# Altium schematic symbol library ICL_komponenty_v1.SchLib: 294 symbols (part 1 of 2)
Pins are listed as number, name and electrical type; pins without a type are passive.

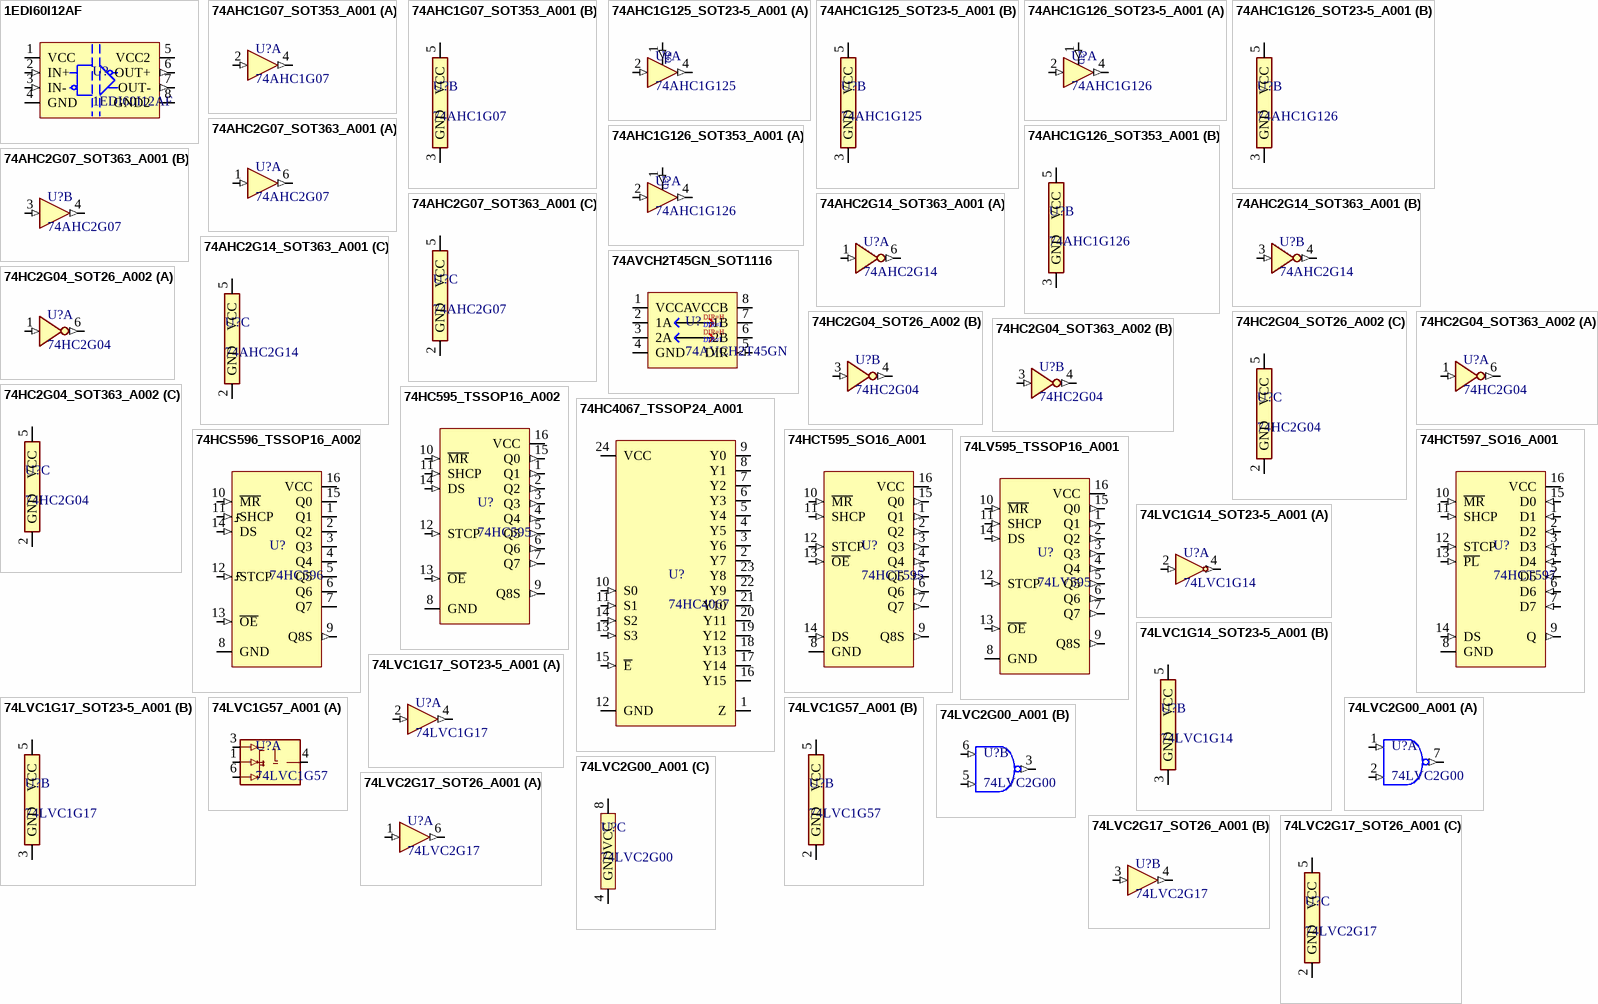
[diagram p0: symbols 1EDI60I12AF to 74LVC2G17_SOT26_A001]

## 1EDI60I12AF
designator U?
Isolated gate driver 6A; ICLN: IC_1EDI60I12AF_SO8_A001
footprint SO-8
pins: 1 VCC (power), 2 IN+ (in), 3 IN- (in), 4 GND (power), 5 VCC2 (power), 6 OUT+ (out), 7 OUT- (out), 8 GND2 (power)

## 74AHC1G07_SOT353_A001
designator U?, comment 74AHC1G07
buffer OC; ITSN: IC_74AHC1G126_SOT353_A001
footprint SOT353
part A pins: 2 A1 (in), 4 Y1 (out)
part B pins: 3 GND (power), 5 VCC (power)

## 74AHC1G125_SOT23-5_A001
designator U?, comment 74AHC1G125
buffer with enable; ICLN: IC_74AHC1G125_SOT23-5_A001
footprint SOT-23-5
part A pins: 1 OE (in), 2 A1 (in), 4 Y1 (out)
part B pins: 3 GND (power), 5 VCC (power)

## 74AHC1G126_SOT23-5_A001
designator U?, comment 74AHC1G126
buffer with enable; ICLN: IC_74AHC1G126_SOT23-5_A001
footprint SOT-23-5
part A pins: 1 OE (in), 2 A1 (in), 4 Y1 (out)
part B pins: 3 GND (power), 5 VCC (power)

## 74AHC1G126_SOT353_A001
designator U?, comment 74AHC1G126
buffer with enable; ITSN: IC_74AHC1G126_SOT353_A001
footprint SOT353
part A pins: 1 OE (in), 2 A1 (in), 4 Y1 (out)
part B pins: 3 GND (power), 5 VCC (power)

## 74AHC2G07_SOT363_A001
designator U?, comment 74AHC2G07
2x buffer OC; ITSN: IC_74AHC2G07_SOT363_A001
footprint SOT363
part A pins: 1 A1 (in), 6 Y1 (out)
part B pins: 3 A2 (in), 4 Y2 (out)
part C pins: 2 GND (power), 5 VCC (power)

## 74AHC2G14_SOT363_A001
designator U?, comment 74AHC2G14
2x inventer; ICLN: IC_74AHC2G14_SOT363_A001
footprint SOT363
part A pins: 1 A1 (in), 6 Y1 (out)
part B pins: 3 A2 (in), 4 Y2 (out)
part C pins: 2 GND (power), 5 VCC (power)

## 74AVCH2T45GN_SOT1116
designator U?, comment 74AVCH2T45GN
2 bit translator; ICLN: IC_74AVCH2T45GN_SOT1116_A001
footprint SOT-1116 (NXP SOT 1116)
pins: 1 VCCA (power), 2 1A (io), 3 2A (io), 4 GND (power), 5 DIR (in), 6 2B (io), 7 1B (io), 8 VCCB (power)
text: DIR=H; DIR=L

## 74HC2G04_SOT26_A002
designator U?, comment 74HC2G04
dual inverter; ICLN: IC_74HC2G04_SOT26_A002
footprint SOT23-6 (Zetex)
part A pins: 1 A1 (in), 6 Y1 (out)
part B pins: 3 A2 (in), 4 Y2 (out)
part C pins: 2 GND (power), 5 VCC (power)

## 74HC2G04_SOT363_A002
designator U?, comment 74HC2G04
dual inverter; ICLN: IC_74HC2G04_SOT26_A002
footprint SOT363
part A pins: 1 A1 (in), 6 Y1 (out)
part B pins: 3 A2 (in), 4 Y2 (out)
part C pins: 2 GND (power), 5 VCC (power)

## 74HC595_TSSOP16_A002
designator U?, comment 74HC595
8-b serial to parallel shift register; ICLN: IC_74HC595_TSSOP16_A002
footprint TSSOP-16
pins: 1 Q1 (out), 2 Q2 (out), 3 Q3 (out), 4 Q4 (out), 5 Q5 (out), 6 Q6 (out), 7 Q7 (out), 8 GND (power), 9 Q8S (out), 10 ~{MR} (in), 11 SHCP (in), 12 STCP (in), 13 ~{OE} (in), 14 DS (in), 15 Q0 (out), 16 VCC (power)

## 74HC4067_TSSOP24_A001
designator U?, comment 74HC4067
1:16 analog multiplekser; ICLN: IC_74HC4067_TSSOP24_A001
footprint TSSOP-24
pins: 1 Z, 2 Y7, 3 Y6, 4 Y5, 5 Y4, 6 Y3, 7 Y2, 8 Y1, 9 Y0, 10 S0 (in), 11 S1 (in), 12 GND (power), 13 S3 (in), 14 S2 (in), 15 ~{E} (in), 16 Y15, 17 Y14, 18 Y13, 19 Y12, 20 Y11, 21 Y10, 22 Y9, 23 Y8, 24 VCC (power)

## 74HCS596_TSSOP16_A002
designator U?, comment 74HC596
8-b serial to parallel shift register with open drain output; ICLN: IC_74HCS596_TSSOP16_A002
footprint TSSOP-16
pins: 1 Q1 (oc), 2 Q2 (oc), 3 Q3 (oc), 4 Q4 (oc), 5 Q5 (oc), 6 Q6 (oc), 7 Q7 (oc), 8 GND (power), 9 Q8S (out), 10 ~{MR} (in), 11 SHCP (in), 12 STCP (in), 13 ~{OE} (in), 14 DS (in), 15 Q0 (oc), 16 VCC (power)

## 74HCT595_SO16_A001
designator U?, comment 74HCT595
8-b serial to parallel shift register; ITSN: IC_74HCT595_SO16_A001
footprint SO-16 (SOIC, 16-Leads, Body 10,0x4,0mm (max), Pitch 1,27mm, IPC Low Density)
pins: 1 Q1 (out), 2 Q2 (out), 3 Q3 (out), 4 Q4 (out), 5 Q5 (out), 6 Q6 (out), 7 Q7 (out), 8 GND (power), 9 Q8S (out), 10 ~{MR} (in), 11 SHCP (in), 12 STCP (in), 13 ~{OE} (in), 14 DS (in), 15 Q0 (out), 16 VCC (power)

## 74HCT597_SO16_A001
designator U?, comment 74HCT597
8-b parallel  to serial shift register; ITSN: IC_74HCT597_SO16_A001
footprint SO-16 (SOIC, 16-Leads, Body 10,0x4,0mm (max), Pitch 1,27mm, IPC Low Density)
pins: 1 D1 (in), 2 D2 (in), 3 D3 (in), 4 D4 (in), 5 D5 (in), 6 D6 (in), 7 D7 (in), 8 GND (power), 9 Q (out), 10 ~{MR} (in), 11 SHCP (in), 12 STCP (in), 13 ~{PL} (in), 14 DS (in), 15 D0 (in), 16 VCC (power)

## 74LV595_TSSOP16_A001
designator U?, comment 74LV595
8-b serial to parallel shift register; ICLN: IC_74LV595_TSSOP16_A001
footprint TSSOP-16
pins: 1 Q1 (out), 2 Q2 (out), 3 Q3 (out), 4 Q4 (out), 5 Q5 (out), 6 Q6 (out), 7 Q7 (out), 8 GND (power), 9 Q8S (out), 10 ~{MR} (in), 11 SHCP (in), 12 STCP (in), 13 ~{OE} (in), 14 DS (in), 15 Q0 (out), 16 VCC (power)

## 74LVC1G14_SOT23-5_A001
designator U?, comment 74LVC1G14
inventer; ICLN: IC_74LVC1G14_SOT23-5_A001
footprint SOT-23-5
part A pins: 2 A1 (in), 4 Y1 (out)
part B pins: 3 GND (power), 5 VCC (power)

## 74LVC1G17_SOT23-5_A001
designator U?, comment 74LVC1G17
buffer; ICLN: IC_74LVC1G17_SOT23-5_A001
footprint SOT-23-5
part A pins: 2 A1 (in), 4 Y1 (out)
part B pins: 3 GND (power), 5 VCC (power)

## 74LVC1G57_A001
designator U?, comment 74LVC1G57
multiple function gate; ITSN: IC_74LVC1G57GW_SOT363_A001
footprint SOT363
part A pins: 1 B, 3 A, 4 Y, 6 C
part B pins: 2 GND (power), 5 VCC (power)

## 74LVC2G00_A001
designator U?, comment 74LVC2G00
MAND GATE; ITSN: IC_74LVC2G00_VSSOP-8_A001
footprint VSSOP-8
part A pins: 1 A1 (in), 2 B1 (in), 7 OUT_1 (out)
part B pins: 3 OUT_2 (out), 5 B2 (in), 6 A2 (in)
part C pins: 4 GND (power), 8 VCC (power)

## 74LVC2G17_SOT26_A001
designator U?, comment 74LVC2G17
buffer with shmitt; ITSN: IC_74LVC2G17_SOT26_A001
footprint SOT23-6 (Zetex)
part A pins: 1 A1 (in), 6 Y1 (out)
part B pins: 3 A2 (in), 4 Y2 (out)
part C pins: 2 GND (power), 5 VCC (power)

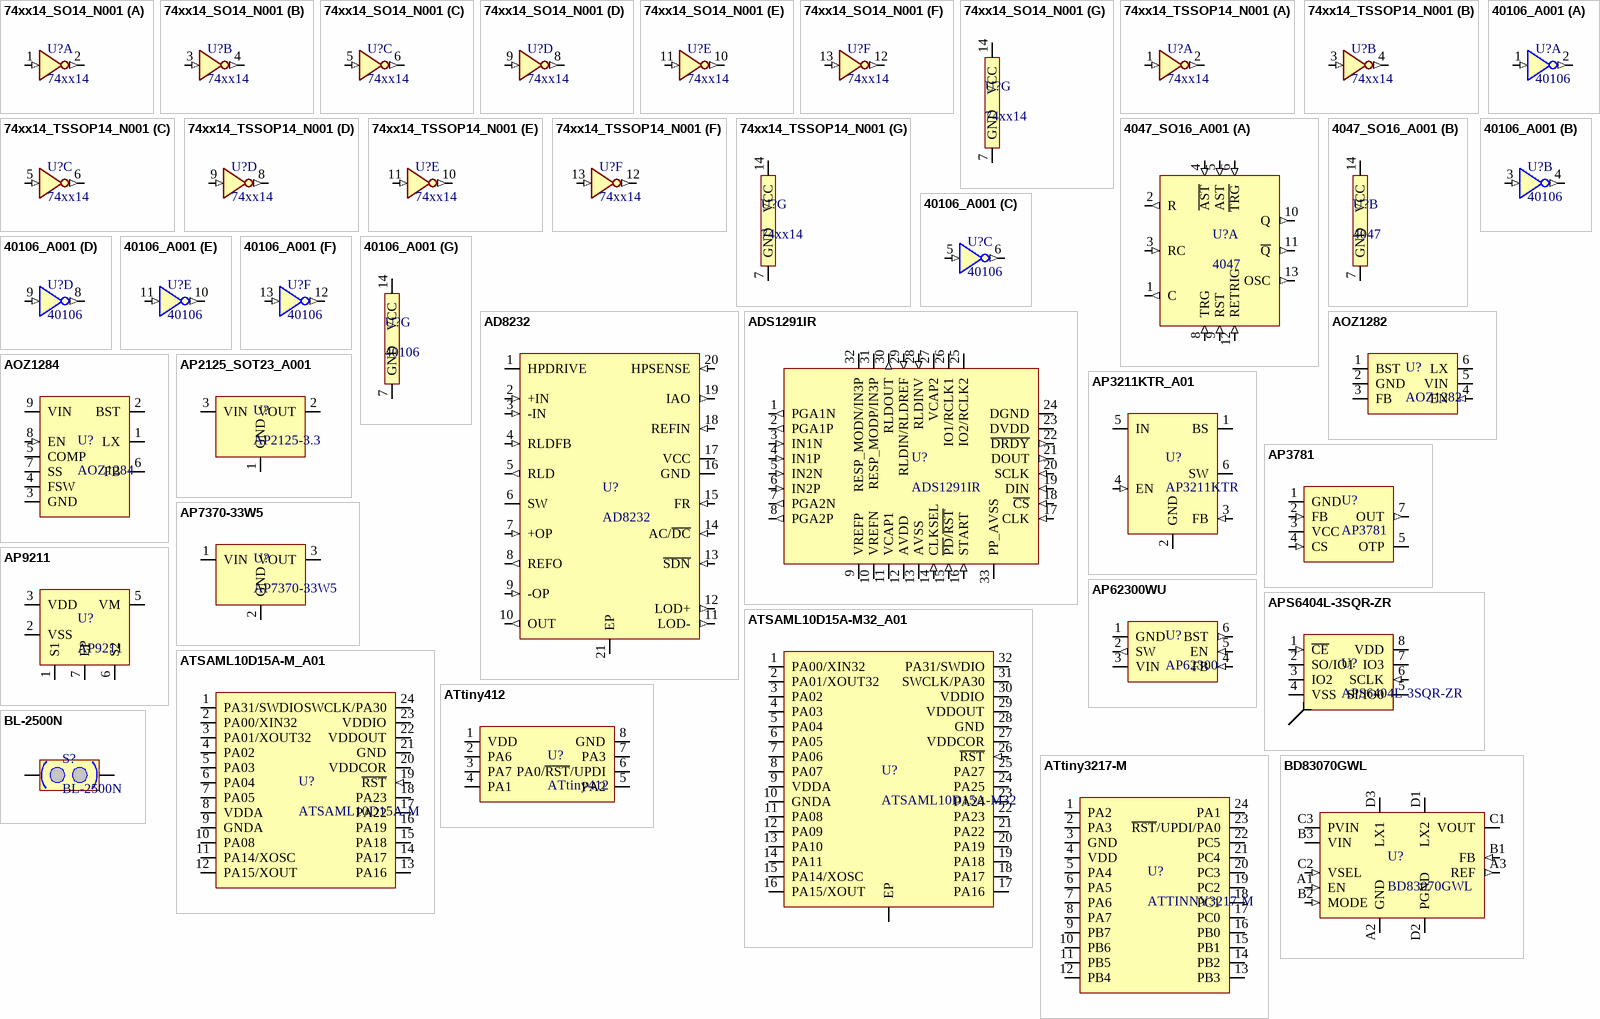
[diagram p1: symbols 74xx14_SO14_N001 to BL-2500N]

## 74xx14_SO14_N001
designator U?, comment 74xx14
6 x inverter SO14; ICLN: IC_74xx14_SO-14_N001
footprint SO-14
part A pins: 1 A1 (in), 2 ~{Y1} (out)
part B pins: 3 A2 (in), 4 ~{Y2} (out)
part C pins: 5 A3 (in), 6 ~{Y3} (out)
part D pins: 8 ~{Y4} (out), 9 A4 (in)
part E pins: 10 ~{Y5} (out), 11 A5 (in)
part F pins: 12 ~{Y6} (out), 13 A6 (in)
part G pins: 7 GND (power), 14 VCC (power)

## 74xx14_TSSOP14_N001
designator U?, comment 74xx14
6 x inverter SO14; ICLN: IC_74xx14_TSSOP-14_N001
footprint TSSOP-14
part A pins: 1 A1 (in), 2 ~{Y1} (out)
part B pins: 3 A2 (in), 4 ~{Y2} (out)
part C pins: 5 A3 (in), 6 ~{Y3} (out)
part D pins: 8 ~{Y4} (out), 9 A4 (in)
part E pins: 10 ~{Y5} (out), 11 A5 (in)
part F pins: 12 ~{Y6} (out), 13 A6 (in)
part G pins: 7 GND (power), 14 VCC (power)

## 4047_SO16_A001
designator U?, comment 4047
monostable/astable multivibrator; ICLN: 4047_SO14_A001
footprint SO-14
part A pins: 1 C (out), 2 R (out), 3 RC (in), 4 ~{AST} (in), 5 AST (in), 6 ~{TRG} (in), 8 TRG (in), 9 RST (in), 10 Q (out), 11 ~{Q} (out), 12 RETRIG (in), 13 OSC (out)
part B pins: 7 GND (power), 14 VCC (power)

## 40106_A001
designator U?, comment 40106
6 x inverter; ITSN: IC_40106_SO-16_A001
footprint SO-14
part A pins: 1 A1 (in), 2 ~{Y1} (out)
part B pins: 3 A2 (in), 4 ~{Y2} (out)
part C pins: 5 A3 (in), 6 ~{Y3} (out)
part D pins: 8 ~{Y4} (out), 9 A4 (in)
part E pins: 10 ~{Y5} (out), 11 A5 (in)
part F pins: 12 ~{Y6} (out), 13 A6 (in)
part G pins: 7 GND (power), 14 VCC (power)

## AD8232
designator U?
Single-Lead, Heart Rate Monitor Front End; ICLN: IC_AD8232ACPZ_QFN-20_A001
footprint QFN20_AD (AD8232)
pins: 1 HPDRIVE, 2 +IN (in), 3 -IN (in), 4 RLDFB (in), 5 RLD (out), 6 SW, 7 +OP (in), 8 REFO (out), 9 -OP (in), 10 OUT (out), 11 LOD- (out), 12 LOD+ (out), 13 ~{SDN} (in), 14 AC/~{DC} (in), 15 FR (in), 16 GND (power), 17 VCC (power), 18 REFIN (in), 19 IAO (out), 20 HPSENSE (in), 21 EP

## ADS1291IR
designator U?
24-Bit Analog Front-End for Biopotential Measurements; ICLN: IC_ADS1291IR_VQFN-32_A001
footprint VQFN-32 (TI VQFN 4X4 32 pin)
pins: 1 PGA1N (out), 2 PGA1P (out), 3 IN1N (in), 4 IN1P (in), 5 IN2N (in), 6 IN2P (in), 7 PGA2N (out), 8 PGA2P (out), 9 VREFP (io), 10 VREFN (io), 11 VCAP1, 12 AVDD (power), 13 AVSS (power), 14 CLKSEL (in), 15 ~{PD}/~{RST} (in), 16 START (in), 17 CLK (in), 18 ~{CS} (in), 19 DIN (in), 20 SCLK (in), 21 DOUT (out), 22 ~{DRDY} (out), 23 DVDD (power), 24 DGND (power), 25 IO2/RCLK2 (io), 26 IO1/RCLK1 (io), 27 VCAP2, 28 RLDINV (in), 29 RLDIN/RLDREF (in), 30 RLDOUT (out), 31 RESP_MODP/IN3P (io), 32 RESP_MODN/IN3P (io), 33 PP_AVSS

## AOZ1282
designator U?
DC/DC 1,2A 36V 500kHz SOT23-6; ITSN: IC_AOZ1282_SOT23-6_A001
footprint SOT23-6 (Zetex)
pins: 1 BST, 2 GND (power), 3 FB, 4 EN (in), 5 VIN (power), 6 LX

## AOZ1284
designator U?
3.0V to 36V 4A step-down; ITSN: IC_AOZ1284_SO8EP_A001
footprint SO-8T
pins: 1 LX, 2 BST, 3 GND (power), 4 FSW, 5 COMP, 6 FB, 7 SS, 8 EN (in), 9 VIN (power)

## AP2125_SOT23_A001
designator U?, comment AP2125-3.3
Multi komponent 2.2-3.3 V 100mA Iq<65uA; ITSN: IC_LIN_REG_MULTI_SOT23_A001
footprint SOT-23
pins: 1 GND (power), 2 VOUT (power), 3 VIN (power)

## AP3211KTR_A01
designator U?, comment AP3211KTR
5-18V 1A5 input buck converter; ICLN: IC_AP3211KTR_SOT23-6_A001
footprint SOT23-6 (Zetex)
pins: 1 BS, 2 GND, 3 FB (in), 4 EN (in), 5 IN, 6 SW

## AP3781
designator U?
Flayback AP3781; ICLN: IC_AP3781S_SO8_SMD_A001
footprint SO-8
pins: 1 GND (power), 2 FB (in), 3 VCC (power), 4 CS (in), 5 OTP, 7 OUT (out)

## AP7370-33W5
designator U?
ICLN: IC_AP7370-33W5_SOT23-5_A001
footprint SOT-23-5
pins: 1 VIN (power), 2 GND (power), 3 VOUT (power)

## AP9211
designator U?
single chip protection for 1-CELL Li+ battery; ITSN: IC_AP9211_UDFN-6_A001
footprint U-DFN2030-6 (DIODEC modyfied DFN-6)
pins: 1 S1, 2 VSS (power), 3 VDD (power), 5 VM, 6 S2, 7 EP

## AP62300WU
designator U?, comment AP62300
Step down synchronus  low IQ 4.2-18V 3A; ICLN: IC_AP62300WU_SOT26_A001
footprint SOT23-6 (Zetex)
pins: 1 GND (power), 2 SW (out), 3 VIN (power), 4 FB (in), 5 EN (in), 6 BST (out)

## APS6404L-3SQR-ZR
designator U?
64Mbit PSRAM; ICLN: IC_PSRAM_64Mb_USON8_A01
footprint USON-8L (3x2mm APMEMORY)
pins: 1 ~{CE} (in), 2 SO/IO1 (io), 3 IO2 (io), 4 VSS (power), 5 SI/IO0 (io), 6 SCLK (in), 7 IO3 (io), 8 VDD (power), 9 EP

## ATSAML10D15A-M32_A01
designator U?, comment ATSAML10D15A-M32
ICLN: IC_ATSAML10D15A_QFN32_A001
footprint QFN-32_A01 (ATSAML10)
pins: 1 PA00/XIN32 (io), 2 PA01/XOUT32 (io), 3 PA02 (io), 4 PA03 (io), 5 PA04 (io), 6 PA05 (io), 7 PA06 (io), 8 PA07 (io), 9 VDDA (power), 10 GNDA (power), 11 PA08 (io), 12 PA09 (io), 13 PA10 (io), 14 PA11 (io), 15 PA14/XOSC (io), 16 PA15/XOUT (io), 17 PA16 (io), 18 PA17 (io), 19 PA18 (io), 20 PA19 (io), 21 PA22 (io), 22 PA23 (io), 23 PA24 (io), 24 PA25 (io), 25 PA27 (io), 26 ~{RST} (in), 27 VDDCOR (power), 28 GND (power), 29 VDDOUT (power), 30 VDDIO (power), 31 SWCLK/PA30 (io), 32 PA31/SWDIO (io), 33 EP

## ATSAML10D15A-M_A01
designator U?, comment ATSAML10D15A-M
ICLN: IC_ATSAML10D15A_QFN24_A001
footprint QFN24_4_4 (QFN, 24-Leads, Body 4,00x4,00mm, Pitch 0,50mm, Thermal Pad 2,60x2,60mm, IPC Medium Density)
pins: 1 PA31/SWDIO (io), 2 PA00/XIN32 (io), 3 PA01/XOUT32 (io), 4 PA02 (io), 5 PA03 (io), 6 PA04 (io), 7 PA05 (io), 8 VDDA (power), 9 GNDA (power), 10 PA08 (io), 11 PA14/XOSC (io), 12 PA15/XOUT (io), 13 PA16 (io), 14 PA17 (io), 15 PA18 (io), 16 PA19 (io), 17 PA22 (io), 18 PA23 (io), 19 ~{RST} (in), 20 VDDCOR (power), 21 GND (power), 22 VDDOUT (power), 23 VDDIO (power), 24 SWCLK/PA30 (io)

## ATtiny412
designator U?
tinyAVR 1-series 4k/256 8pin; ITSN: IC_ATTINY412_A001
footprint SO-8
pins: 1 VDD (power), 2 PA6 (io), 3 PA7 (io), 4 PA1 (io), 5 PA2 (io), 6 PA0/~{RST}/UPDI (io), 7 PA3 (io), 8 GND (power)

## ATtiny3217-M
designator U?, comment ATTINNY3217-M
32k/2k
footprint QFN24_4_4 (QFN, 24-Leads, Body 4,00x4,00mm, Pitch 0,50mm, Thermal Pad 2,60x2,60mm, IPC Medium Density)
pins: 1 PA2 (io), 2 PA3 (io), 3 GND (power), 4 VDD (power), 5 PA4 (io), 6 PA5 (io), 7 PA6 (io), 8 PA7 (io), 9 PB7 (io), 10 PB6 (io), 11 PB5 (io), 12 PB4 (io), 13 PB3 (io), 14 PB2 (io), 15 PB1 (io), 16 PB0 (io), 17 PC0 (io), 18 PC1 (io), 19 PC2 (io), 20 PC3 (io), 21 PC4 (io), 22 PC5 (io), 23 ~{RST}/UPDI/PA0 (io), 24 PA1 (io)

## BD83070GWL
designator U?
Synchronous Buck-Boost; low IQ; 2-5V / 1A; ICLN: IC_BD83070GWL_BGA12_A001
footprint BD83070GWL (BGA)
pins: A1 EN (in), A2 GND (power), A3 REF (out), B1 FB (in), B2 MODE (in), B3 VIN (power), C1 VOUT (power), C2 VSEL (in), C3 PVIN (power), D1 LX2, D2 PGND (power), D3 LX1

## BL-2500N
designator S?
vibration switch; ICLN: nn
footprint BL-2500N (vibration sensor)
pins: 1 A, 2 B

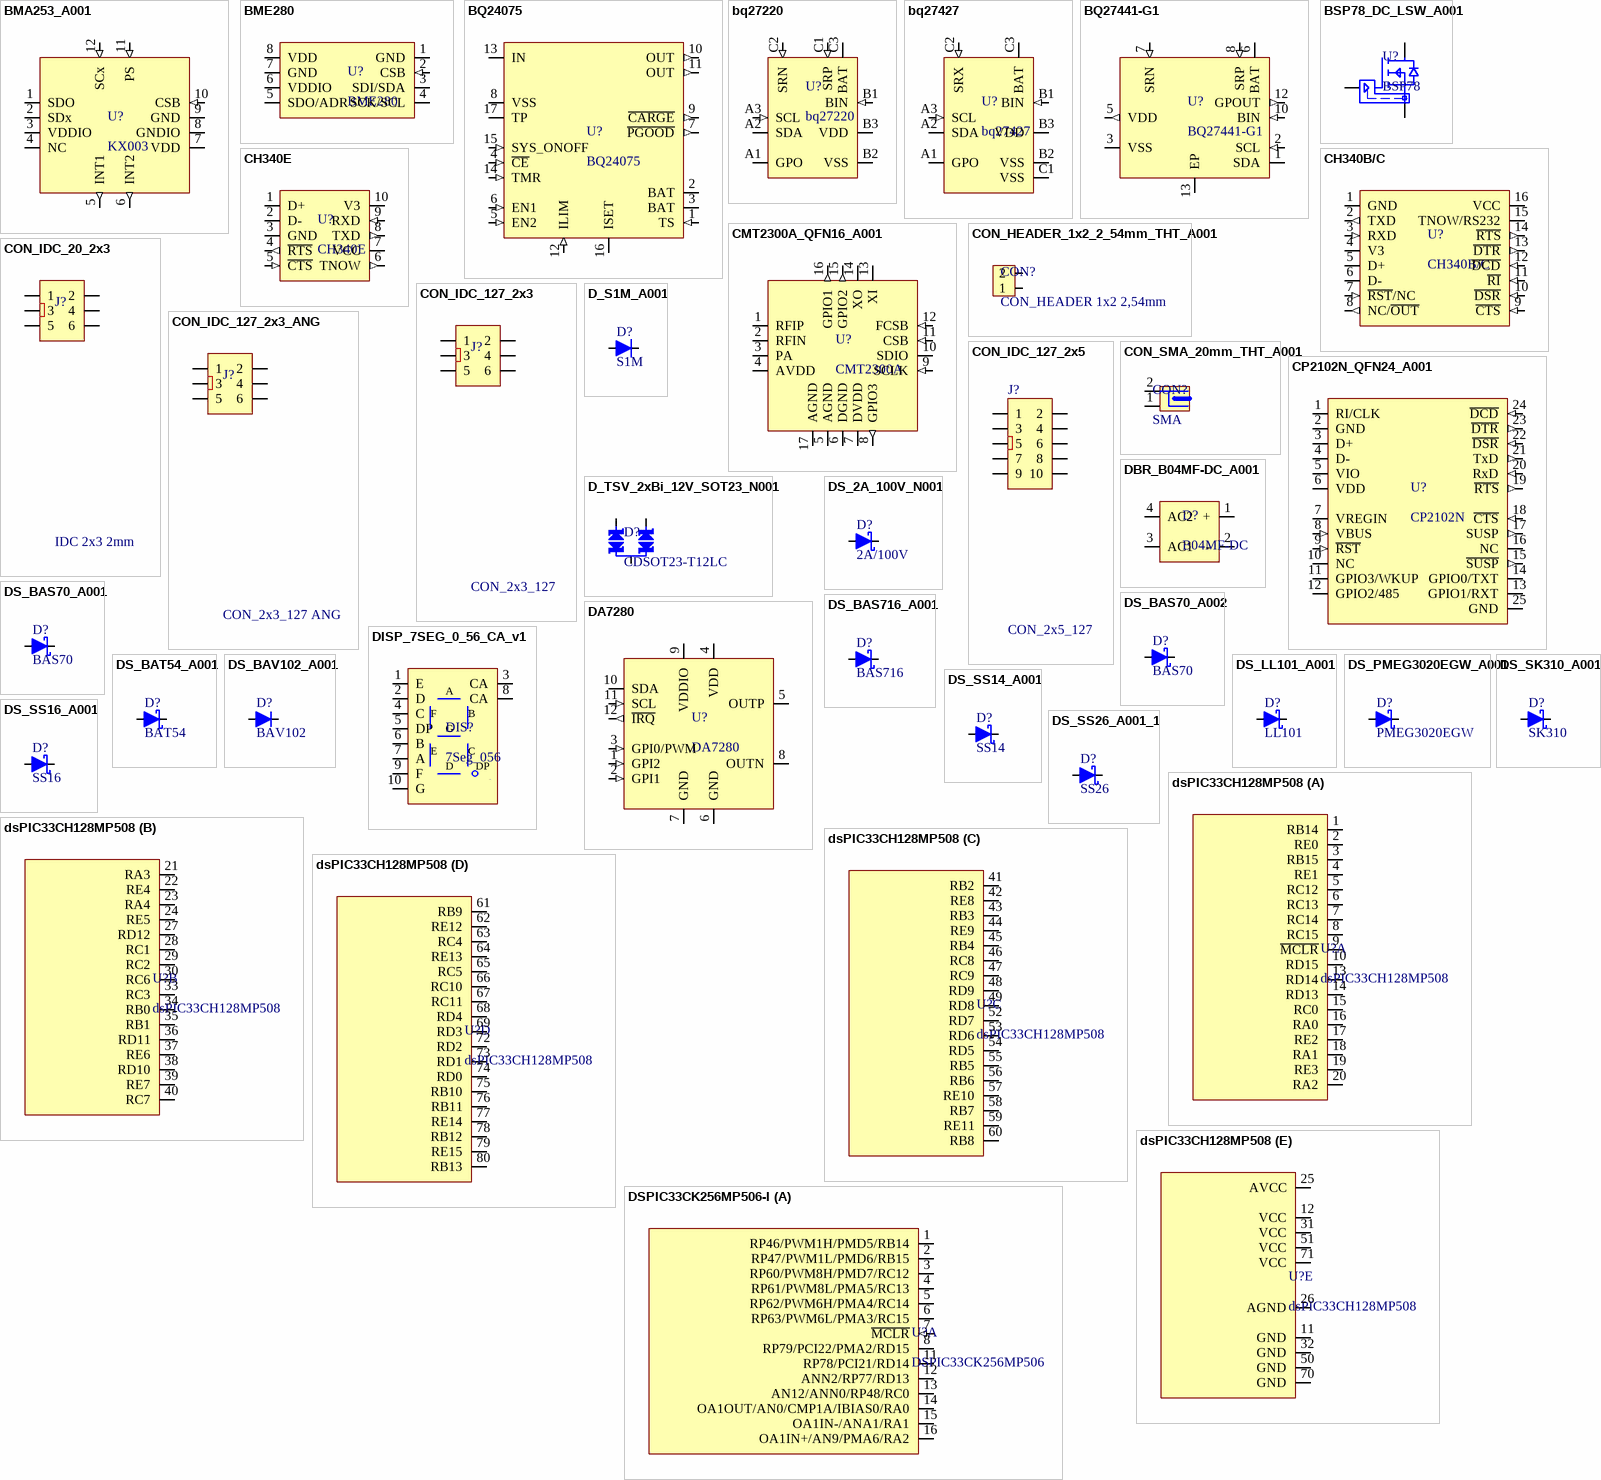
[diagram p2: symbols BMA253_A001 to DSPIC33CK256MP506-I]

## BMA253_A001
designator U?, comment KX003
KX003-1077
footprint LGA-12_ACC_BOSCH (LGA, 12-Leads, Body 2,00x2,00mmx0,70mm, Pitch 0,50mm)
pins: 1 SDO (io), 2 SDx (io), 3 VDDIO, 4 NC, 5 INT1 (out), 6 INT2 (out), 7 VDD (power), 8 GNDIO (power), 9 GND (power), 10 CSB (in), 11 PS (in), 12 SCx (in)

## BME280
designator U?
BME280 BOSCH, humidity, pressure and temperature sensor.; ITSN: IC_BME280_LGA8_A001
footprint LGA_8 (BME280 bosh)
pins: 1 GND (power), 2 CSB (in), 3 SDI/SDA (io), 4 SCK/SCL (io), 5 SDO/ADR (io), 6 VDDIO (power), 7 GND (power), 8 VDD (power)

## BQ24075
designator U?
1-Cell 1.5-A Linear Battery Chargers with Power Path; ICLN: IC_BQ24075_QFN16_A001
footprint QFN_16_3x3_A001 (CMOSTEK)
pins: 1 TS (in), 2 BAT (power), 3 BAT (power), 4 ~{CE} (in), 5 EN2 (in), 6 EN1 (in), 7 ~{PGOOD} (out), 8 VSS (power), 9 ~{CARGE} (out), 10 OUT (out), 11 OUT (out), 12 ILIM (in), 13 IN (power), 14 TMR (in), 15 SYS_ONOFF (in), 16 ISET (io), 17 TP

## bq27220
designator U?
Single-Cell CEDV Fuel Gauge; ICLN: IC_BQ27220_BGA_A01
footprint DSBGA-9 (0,5x0,5 mm BGA TI)
pins: A1 GPO (oc), A2 SDA (oc), A3 SCL (in), B1 BIN (in), B2 VSS (power), B3 VDD (power), C1 SRP (in), C2 SRN (in), C3 BAT

## bq27427
designator U?
Single-Cell CEDV Fuel Gauge; ICLN: IC_BQ27427_BGA_A01
footprint DSBGA-9 (0,5x0,5 mm BGA TI)
pins: A1 GPO (oc), A2 SDA (oc), A3 SCL (in), B1 BIN (in), B2 VSS (power), B3 VDD (power), C1 VSS (power), C2 SRX (in), C3 BAT

## BQ27441-G1
designator U?
System-Side Impedance Track™ Fuel Gauge; ICLN: IC_BQ27441-G1_VSON12_A001
footprint VSON_12 (TI VSON 12 PACKAGE)
pins: 1 SDA (io), 2 SCL (in), 3 VSS (power), 5 VDD (out), 6 BAT, 7 SRN (in), 8 SRP (in), 10 BIN (in), 12 GPOUT (out), 13 EP

## BSP78_DC_LSW_A001
designator U?, comment BSP78
Low side protected MOSFET; ITSN: IC_BSP78_SOT223_A001
footprint SOT-223
pins: 1 G, 2 D, 3 S

## CH340B/C
designator U?
CHINESS usb to usart conventer; ICLN: IC_CH340B/C_SO16_N001
footprint SO-16 (SOIC, 16-Leads, Body 10,0x4,0mm (max), Pitch 1,27mm, IPC Low Density)
pins: 1 GND (power), 2 TXD (out), 3 RXD (in), 4 V3 (power), 5 D+ (io), 6 D- (io), 7 ~{RST}/NC (in), 8 NC/~{OUT} (out), 9 ~{CTS} (in), 10 ~{DSR} (in), 11 ~{RI} (in), 12 ~{DCD} (in), 13 ~{DTR} (out), 14 ~{RTS} (out), 15 TNOW/RS232 (io), 16 VCC (power)

## CH340E
designator U?
CHINESS usb to usart conventer; ICLN: IC_CH340E_MSOP-10_A001
footprint MSOP-10-WCH
pins: 1 D+ (io), 2 D- (io), 3 GND (power), 4 ~{RTS} (out), 5 ~{CTS} (in), 6 TNOW (out), 7 VCC (power), 8 TXD (out), 9 RXD (in), 10 V3 (power)

## CMT2300A_QFN16_A001
designator U?, comment CMT2300A
RF Transciver sub Giga CEMOSTEK CMT2300A QFN16; ICLN: IC_CMT2300A_QFN16_A001
footprint QFN_16_3x3_A001 (CMOSTEK)
pins: 1 RFIP, 2 RFIN, 3 PA, 4 AVDD (power), 5 AGND (power), 6 DGND (power), 7 DVDD (power), 8 GPIO3 (out), 9 SCLK (in), 10 SDIO (io), 11 CSB (in), 12 FCSB (in), 13 XI, 14 XO, 15 GPIO2 (out), 16 GPIO1 (out), 17 AGND (power)

## CON_HEADER_1x2_2_54mm_THT_A001
designator CON?, comment CON_HEADER 1x2 2,54mm
footprint CON_HEADER_1x2_2.54_THT_A001
pins: 1, 2

## CON_IDC_20_2x3
designator J?, comment IDC 2x3 2mm
IDC THT 2mm 2x3
footprint IDC_2_0_2x3_THT (IDC 2x3 2mm THT)
pins: 1, 2, 3, 4, 5, 6

## CON_IDC_127_2x3
designator J?, comment CON_2x3_127
Connector
footprint IDC_1_27_2x3_SMT (IDC 2x3 1,27 mm SMT OEM)
pins: 1, 2, 3, 4, 5, 6

## CON_IDC_127_2x3_ANG
designator J?, comment CON_2x3_127 ANG
Connector 1,27mm ANG
footprint IDC_1_27_2x3_THT_angle (IDC 2x3 1,27 mm THT angle)
pins: 1, 2, 3, 4, 5, 6

## CON_IDC_127_2x5
designator J?, comment CON_2x5_127
Connector
footprint IDC_1_27_2x5_SMT (IDC 2x5 1,27 mm SMT OEM)
pins: 1, 2, 3, 4, 5, 6, 7, 8, 9, 10

## CON_SMA_20mm_THT_A001
designator CON?, comment SMA
ITSN: CON_SMA_20mm_THT_A001
footprint SMA_THT_20mm_A001
pins: 1, 2

## CP2102N_QFN24_A001
designator U?, comment CP2102N
USB 2 RS; ICLN: IC_CP2102N_QFN24_A001
footprint QFN24_4_4 (QFN, 24-Leads, Body 4,00x4,00mm, Pitch 0,50mm, Thermal Pad 2,60x2,60mm, IPC Medium Density)
pins: 1 RI/CLK (io), 2 GND (power), 3 D+, 4 D-, 5 VIO, 6 VDD (power), 7 VREGIN, 8 VBUS (in), 9 ~{RST} (in), 10 NC, 11 GPIO3/WKUP (io), 12 GPIO2/485 (io), 13 GPIO1/RXT (io), 14 GPIO0/TXT (io), 15 ~{SUSP} (out), 16 NC, 17 SUSP (out), 18 ~{CTS} (in), 19 ~{RTS} (out), 20 RxD (in), 21 TxD (out), 22 ~{DSR} (in), 23 ~{DTR} (out), 24 ~{DCD} (in), 25 GND (power)

## D_S1M_A001
designator D?, comment S1M
S1M 1kV 1A DO214AC (SMA); ICLN: D_1kV_1A_S1M_SMD_A001
footprint DO214AC
pins: 1 A, 2 K

## D_TSV_2xBi_12V_SOT23_N001
designator D?, comment CDSOT23-T12LC
12V Dual Line TVS Diode; ICLN: D_TSV_2xBi_12V_SOT23_N001
footprint SOT-23
pins: 1 K, 2 K, 3 CA

## DA7280
designator U?
LRA/ERM Haptic Driver; ICLN: IC_DA7280_QFN_A001
footprint QFN12_RENESAS_A01
pins: 1 GPI2 (in), 2 GPI1 (in), 3 GPI0/PWM (in), 4 VDD (power), 5 OUTP, 6 GND (power), 7 GND (power), 8 OUTN, 9 VDDIO (power), 10 SDA (io), 11 SCL (in), 12 ~{IRQ} (out)

## DBR_B04MF-DC_A001
designator D?, comment B04MF-DC
1kV/0.4A SMD; ICLN: DBR_B04MF_SMD_A001
footprint MBFL (Bridge rectifier)
pins: 1 +, 2 -, 3 AC1, 4 AC2

## DISP_7SEG_0_56_CA_v1
designator DIS?, comment 7Seg_056
LED display CA; ICLN: DISP_7SEG_nn
footprint DISP_7SEG_0_56_CA_v1
pins: 1 E, 2 D, 3 CA, 4 C, 5 DP, 6 B, 7 A, 8 CA, 9 F, 10 G

## DS_2A_100V_N001
designator D?, comment 2A/100V
Schottky 100V 2A DO214AA; ICLN: DS_2A_100V_DO214AA_N001
footprint DO214AA
pins: 1 A, 2 K

## DS_BAS70_A001
designator D?, comment BAS70
BAS70 Schottky switching diode single, 70mA 70V; ICLN: DS_BAS70_SOD-523_A001
footprint SOD-523
pins: 1 A, 2 K

## DS_BAS70_A002
designator D?, comment BAS70
BAS70 Schottky switching diode single, 70mA 70V; ICLN: DS_BAS70_SOD-323_A001
footprint SOD-323
pins: 1 A, 2 K

## DS_BAS716_A001
designator D?, comment BAS716
BAS716 low-leakage diode single, 0,2A 75V; ITSN: DS_BAS716_SOD523_A001
footprint SOD-523
pins: 1 A, 2 K

## DS_BAT54_A001
designator D?, comment BAT54
BAT54 Schottky diode single, 0,2A 30V; ICLN: DS_BAT54_SOD523_A001
footprint SOD-523
pins: 1 A, 2 K

## DS_BAV102_A001
designator D?, comment BAV102
BAV102 switching diode 50ns 200V 0,25A; ITSN: DS_BAV102_SOD-80_A001
footprint SOD-80 (miniMELF)
pins: 1 A, 2 K

## DS_LL101_A001
designator D?, comment LL101
LL101 Schottky diode switch 1ns, 15mA 40V; ITSN: DS_LL101_SOD-80_A001
footprint SOD-80 (miniMELF)
pins: 1 A, 2 K

## DS_PMEG3020EGW_A001
designator D?, comment PMEG3020EGW
Schottky switching diode single, 2A 30V; ICLN: DS_PMEG3020EGW_SOD-123_A001
footprint SOD-123
pins: 1 A, 2 K

## DS_SK310_A001
designator D?, comment SK310
SK310 Schottky 100V 3A DO214AC (SMA); ICLN: DS_SK310_3A_100V_DO214AC_A001
footprint DO214AC
pins: 1 A, 2 K

## DS_SS14_A001
designator D?, comment SS14
SS14 Schottky 40V 1A DO214AC (SMA); ITSN: DS_SS14_1A_40V_DO214AC_A001
footprint DO214AC
pins: 1 A, 2 K

## DS_SS16_A001
designator D?, comment SS16
SS16 Schottky 60V 1A DO214AC (SMA); ITSN: DS_SS16_1A_60V_DO214AC_A001
footprint DO214AC
pins: 1 A, 2 K

## DS_SS26_A001_1
designator D?, comment SS26
SS26 Schottky 60V 2A SOD123; ICLN: DS_SS26_SOD123_A001
footprint SOD-123
pins: 1 A, 2 K

## dsPIC33CH128MP508
designator U?
ICLN: IC_DSPIC33CH128MP508_A001
footprint LQFP-80 (TSQFP, 80-Leads, Body 12.00x12.00mm, Pitch 0.50mm, IPC Low Density)
part A pins: 1 RB14 (io), 2 RE0 (io), 3 RB15 (io), 4 RE1 (io), 5 RC12 (io), 6 RC13 (io), 7 RC14 (io), 8 RC15 (io), 9 ~{MCLR} (io), 10 RD15 (io), 13 RD14 (io), 14 RD13 (io), 15 RC0 (io), 16 RA0 (io), 17 RE2 (io), 18 RA1 (io), 19 RE3 (io), 20 RA2 (io)
part B pins: 21 RA3 (io), 22 RE4 (io), 23 RA4 (io), 24 RE5 (io), 27 RD12 (io), 28 RC1 (io), 29 RC2 (io), 30 RC6 (io), 33 RC3 (io), 34 RB0 (io), 35 RB1 (io), 36 RD11 (io), 37 RE6 (io), 38 RD10 (io), 39 RE7 (io), 40 RC7 (io)
part C pins: 41 RB2 (io), 42 RE8 (io), 43 RB3 (io), 44 RE9 (io), 45 RB4 (io), 46 RC8 (io), 47 RC9 (io), 48 RD9 (io), 49 RD8 (io), 52 RD7 (io), 53 RD6 (io), 54 RD5 (io), 55 RB5 (io), 56 RB6 (io), 57 RE10 (io), 58 RB7 (io), 59 RE11 (io), 60 RB8 (io)
part D pins: 61 RB9 (io), 62 RE12 (io), 63 RC4 (io), 64 RE13 (io), 65 RC5 (io), 66 RC10 (io), 67 RC11 (io), 68 RD4 (io), 69 RD3 (io), 72 RD2 (io), 73 RD1 (io), 74 RD0 (io), 75 RB10 (io), 76 RB11 (io), 77 RE14 (io), 78 RB12 (io), 79 RE15 (io), 80 RB13 (io)
part E pins: 11 GND (power), 12 VCC (power), 25 AVCC (power), 26 AGND (power), 31 VCC (power), 32 GND (power), 50 GND (power), 51 VCC (power), 70 GND (power), 71 VCC (power)

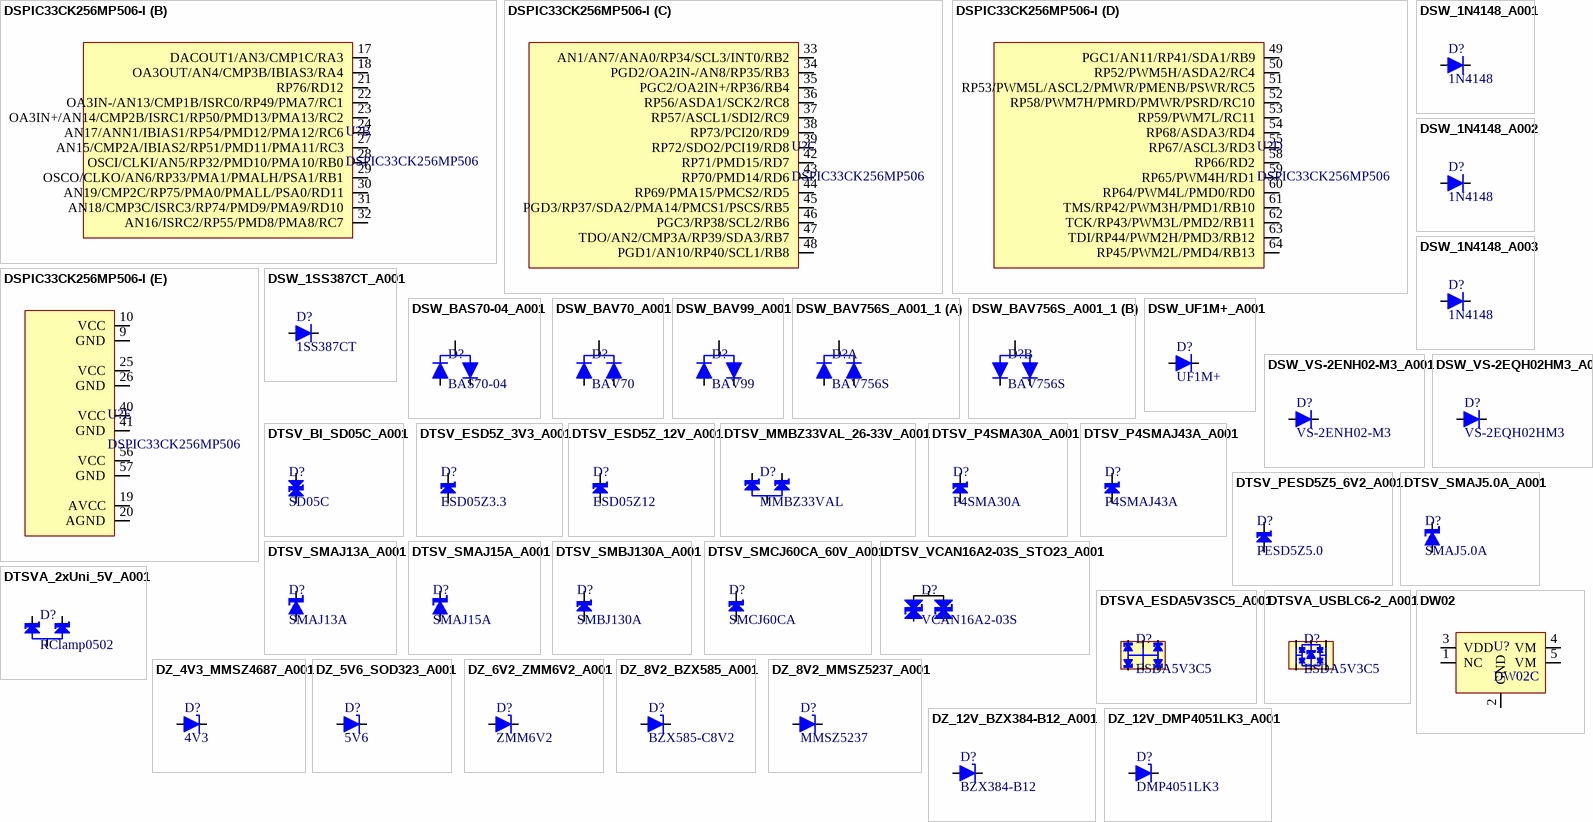
[diagram p3: symbols DSPIC33CK256MP506-I to DZ_12V_DMP4051LK3_A001]

## DSPIC33CK256MP506-I
designator U?, comment DSPIC33CK256MP506
ICLN: IC_DSPIC33CK256MP506_TQFP64_A001
footprint LQFP64_small (TSQFP, 64-Leads, Body 10,00x10,00mm, Pitch 0,50mm)
part A pins: 1 RP46/PWM1H/PMD5/RB14 (io), 2 RP47/PWM1L/PMD6/RB15 (io), 3 RP60/PWM8H/PMD7/RC12 (io), 4 RP61/PWM8L/PMA5/RC13 (io), 5 RP62/PWM6H/PMA4/RC14 (io), 6 RP63/PWM6L/PMA3/RC15 (io), 7 ~{MCLR} (in), 8 RP79/PCI22/PMA2/RD15 (io), 11 RP78/PCI21/RD14 (io), 12 ANN2/RP77/RD13 (io), 13 AN12/ANN0/RP48/RC0 (io), 14 OA1OUT/AN0/CMP1A/IBIAS0/RA0 (io), 15 OA1IN-/ANA1/RA1 (io), 16 OA1IN+/AN9/PMA6/RA2 (io)
part B pins: 17 DACOUT1/AN3/CMP1C/RA3 (io), 18 OA3OUT/AN4/CMP3B/IBIAS3/RA4 (io), 21 RP76/RD12 (io), 22 OA3IN-/AN13/CMP1B/ISRC0/RP49/PMA7/RC1 (io), 23 OA3IN+/AN14/CMP2B/ISRC1/RP50/PMD13/PMA13/RC2 (io), 24 AN17/ANN1/IBIAS1/RP54/PMD12/PMA12/RC6 (io), 27 AN15/CMP2A/IBIAS2/RP51/PMD11/PMA11/RC3 (io), 28 OSCI/CLKI/AN5/RP32/PMD10/PMA10/RB0 (io), 29 OSCO/CLKO/AN6/RP33/PMA1/PMALH/PSA1/RB1 (io), 30 AN19/CMP2C/RP75/PMA0/PMALL/PSA0/RD11 (io), 31 AN18/CMP3C/ISRC3/RP74/PMD9/PMA9/RD10 (io), 32 AN16/ISRC2/RP55/PMD8/PMA8/RC7 (io)
part C pins: 33 AN1/AN7/ANA0/RP34/SCL3/INT0/RB2 (io), 34 PGD2/OA2IN-/AN8/RP35/RB3 (io), 35 PGC2/OA2IN+/RP36/RB4 (io), 36 RP56/ASDA1/SCK2/RC8 (io), 37 RP57/ASCL1/SDI2/RC9 (io), 38 RP73/PCI20/RD9 (io), 39 RP72/SDO2/PCI19/RD8 (io), 42 RP71/PMD15/RD7 (io), 43 RP70/PMD14/RD6 (io), 44 RP69/PMA15/PMCS2/RD5 (io), 45 PGD3/RP37/SDA2/PMA14/PMCS1/PSCS/RB5 (io), 46 PGC3/RP38/SCL2/RB6 (io), 47 TDO/AN2/CMP3A/RP39/SDA3/RB7 (io), 48 PGD1/AN10/RP40/SCL1/RB8 (io)
part D pins: 49 PGC1/AN11/RP41/SDA1/RB9 (io), 50 RP52/PWM5H/ASDA2/RC4 (io), 51 RP53/PWM5L/ASCL2/PMWR/PMENB/PSWR/RC5 (io), 52 RP58/PWM7H/PMRD/PMWR/PSRD/RC10 (io), 53 RP59/PWM7L/RC11 (io), 54 RP68/ASDA3/RD4 (io), 55 RP67/ASCL3/RD3 (io), 58 RP66/RD2 (io), 59 RP65/PWM4H/RD1 (io), 60 RP64/PWM4L/PMD0/RD0 (io), 61 TMS/RP42/PWM3H/PMD1/RB10 (io), 62 TCK/RP43/PWM3L/PMD2/RB11 (io), 63 TDI/RP44/PWM2H/PMD3/RB12 (io), 64 RP45/PWM2L/PMD4/RB13 (io)
part E pins: 9 GND (power), 10 VCC (power), 19 AVCC (power), 20 AGND (power), 25 VCC (power), 26 GND (power), 40 VCC (power), 41 GND (power), 56 VCC (power), 57 GND (power)

## DSW_1N4148_A001
designator D?, comment 1N4148
1N4148 75V 150mA; ICLN: DSW_1N4148_SOD523_A001
footprint SOD-523 (SC-79)
pins: 1 A, 2 K

## DSW_1N4148_A002
designator D?, comment 1N4148
1N4148 75V 150mA; ITSN: DSW_1N4148_MicroMELF_A001
footprint microMELF (MELF Diode, 2-Leads, Body 1,90x1,15mm, IPC Medium Density)
pins: 1 A, 2 K

## DSW_1N4148_A003
designator D?, comment 1N4148
1N4148 75V 150mA 4ns; ICLN: DSW_1N4148_SOD323_A003
footprint SOD-323
pins: 1 A, 2 K

## DSW_1SS387CT_A001
designator D?, comment 1SS387CT
1SS387CT 85V 100mA 1,6ns 0,5pF; ITSN: DSW_1SS387CT_80V_0A2_SOD-882_A001
footprint SOD-882
pins: 1 A, 2 K

## DSW_BAS70-04_A001
designator D?, comment BAS70-04
schottky diode 70V 100mA 4ns; ICLN: DSW_BAS70-04_SOT23_A002
footprint SOT-23
pins: 1 A, 2 K, 3

## DSW_BAV70_A001
designator D?, comment BAV70
switching diode BAV70 100V 200mA 4ns; ITSN: DSW_BAV70_100V_0A2_SOT23_A001
footprint SOT-23
pins: 1 A1, 2 A2, 3

## DSW_BAV99_A001
designator D?, comment BAV99
switching diode BAV99 100V 200mA 4ns; ICLN: DSW_BAV99_100V_0A2_SOT23_A001
footprint SOT-23
pins: 1 A, 2 K, 3

## DSW_BAV756S_A001_1
designator D?, comment BAV756S
switching diode BAV756S 90V 250mA 4ns; ICLN: NN
footprint SOT363
part A pins: 1 A1, 5 A2, 6 K1
part B pins: 2 K1, 3 CA2, 4 K2

## DSW_UF1M+_A001
designator D?, comment UF1M+
fast swithing  rectifier 75ns 1kV 1A; ICLN: DSW_UF1M+_1kV_1A_DO214AC_A001
footprint DO214AC
pins: 1 A, 2 K

## DSW_VS-2ENH02-M3_A001
designator D?, comment VS-2ENH02-M3
VS-2ENH02-M3 200V 2A ultrafast switching; ICLN: DSW_VS-2ENH02-M3_A001
footprint DO220AA
pins: 1 A, 2 K

## DSW_VS-2EQH02HM3_A001
designator D?, comment VS-2EQH02HM3
ultrafast swithing  rectifier 25ns 200V 2A; ICLN: DSW_VS-2EQH02HM3_200V_2A_SMD_A001
footprint DO219AD
pins: 1 A, 2 K

## DTSV_BI_SD05C_A001
designator D?, comment SD05C
Single Line TVS Diode  5V; ITSN: DTSV_SD05C_BI_5V_24A_SOD-323_A001
footprint SOD-323
pins: 1, 2

## DTSV_ESD5Z_3V3_A001
designator D?, comment ESD05Z3.3
3V3 Single Line TVS Diode; ITSN: DTSV_ESD5Z3.3_3V3_11A2_SOD-523_A001
footprint SOD-523
pins: 1 A, 2 K

## DTSV_ESD5Z_12V_A001
designator D?, comment ESD05Z12
12V Single Line TVS Diode; ITSN: DTSV_ESD5Z12T1G_12V_9A_SOD-523_A001
footprint SOD-523
pins: 1 A, 2 K

## DTSV_MMBZ33VAL_26-33V_A001
designator D?, comment MMBZ33VAL
26-33V Dual Line TVS Diode; ITSN: DTSV_MMBZ33_26-33V_SOT23_A001
footprint SOT-23
pins: 1 K, 2 K, 3 CA

## DTSV_P4SMA30A_A001
designator D?, comment P4SMA30A
Single Line TVS Diode  30V 10A; ITSN: DTSV_P4SMA30A_30V_DO214AC_A001
footprint DO214AC
pins: 1 A, 2 K

## DTSV_P4SMAJ43A_A001
designator D?, comment P4SMAJ43A
Single Line TVS Diode  43V 10A; ITSN: DTSV_P4SMAJ43A_43V_DO214AC_A001
footprint DO214AC
pins: 1 A, 2 K

## DTSV_PESD5Z5_6V2_A001
designator D?, comment PESD5Z5.0
5V/6V2 Single Line TVS Diode; ICLN: DTSV_PESD5Z5_6V2_SOD-523_A001
footprint SOD-523
pins: 1 A, 2 K

## DTSV_SMAJ5.0A_A001
designator D?, comment SMAJ5.0A
Single Line TVS Diode  5V 43A; ICLN: DTSV_SMAJ5.0A_5V_DO214AC_A001
footprint DO214AC
pins: 1 A, 2 K

## DTSV_SMAJ13A_A001
designator D?, comment SMAJ13A
Single Line TVS Diode  13V 43A; ICLN: DTSV_SMAJ13A_13V_DO214AC_A001
footprint DO214AC
pins: 1 A, 2 K

## DTSV_SMAJ15A_A001
designator D?, comment SMAJ15A
Single Line TVS Diode  15V 43A; ICLN: DTSV_SMAJ15A_15V_DO214AC_A001
footprint DO214AC
pins: 1 A, 2 K

## DTSV_SMBJ130A_A001
designator D?, comment SMBJ130A
Single Line TVS Diode  130V 600W; ICLN: DTSV_SMBJ130A_130V_DO214AA_A001
footprint DO214AA
pins: 1 A, 2 K

## DTSV_SMCJ60CA_60V_A001
designator D?, comment SMCJ60CA
60V  TVS Diode; ICLN: DTSV_SMCJ60CA_DO214AB_A001
footprint DO-214AB (DO-214AB TSV)
pins: 1 A, 2 K

## DTSV_VCAN16A2-03S_STO23_A001
designator D?, comment VCAN16A2-03S
dual Line TVS Diode  17V; ICLN: DTSV_VCAN16A2-03S_STO23_A001
footprint SOT-23
pins: 1, 2, 3

## DTSVA_2xUni_5V_A001
designator D?, comment RClamp0502
5V Dual Line TVS Diode; ICLN: D_TSVA_2xUNI_5V_SOT323_N001
footprint SOT-523
pins: 1 K, 2 K, 3 CA

## DTSVA_ESDA5V3SC5_A001
designator D?, comment ESDA5V3C5
Quad TSV array 5V3; ITSN: DTSVA_ESDA5V3SC5_5V9_22A_SOT23-6_A001
footprint SOT23-6 (Zetex)
pins: 1, 2, 3, 4, 5, 6

## DTSVA_USBLC6-2_A001
designator D?, comment ESDA5V3C5
Quad TSV array 5V3; ITSN: DTSVA_USBLC6_SOT-26_A001
footprint SOT23-6 (Zetex)
pins: 1, 2, 3, 4, 5, 6

## DW02
designator U?, comment DW02C
Lithium battery protected circuit; ICLN: IC_DW02C_SOT23-6_A001
footprint SOT-23-5
pins: 1 NC, 2 GND, 3 VDD (power), 4 VM (power), 5 VM (power)

## DZ_4V3_MMSZ4687_A001
designator D?, comment 4V3
4V3 Zener Iz=50uA SOD-123; ICLN: DZ_4V3_50uA_SOD123_A001
footprint SOD-123
pins: 1 A, 2 K

## DZ_5V6_SOD323_A001
designator D?, comment 5V6
5V6 2%; ICLN: DZ_5V6_SOD323_A001
footprint SOD-323
pins: 1 A, 2 K

## DZ_6V2_ZMM6V2_A001
designator D?, comment ZMM6V2
6V2 Zener, LL-34 MiniMelf; ICLN: nn
footprint MINIMELF
pins: 1 A, 2 K

## DZ_8V2_BZX585_A001
designator D?, comment BZX585-C8V2
8V2 Zener, SOD-523; ITSN: DZ_8V2_BZX585_SOD-523_A001
footprint SOD-523 (SC-79)
pins: 1 A, 2 K

## DZ_8V2_MMSZ5237_A001
designator D?, comment MMSZ5237
8V2 Zener, SOD-323; ITSN: DZ_8V2_MMSZ5237_SOD323_A001
footprint SOD-323
pins: 1 A, 2 K

## DZ_12V_BZX384-B12_A001
designator D?, comment BZX384-B12
12V Zener Iz=50uA SOD-323; ITSN: DZ_12V_BZX384_SOD323_A001
footprint SOD-323
pins: 1 A, 2 K

## DZ_12V_DMP4051LK3_A001
designator D?, comment DMP4051LK3
12V Zener Iz=250uA SOD-123; ICLN: DZ_12V_MMSZ5242B_SOD-123_A001
footprint SOD-123
pins: 1 A, 2 K

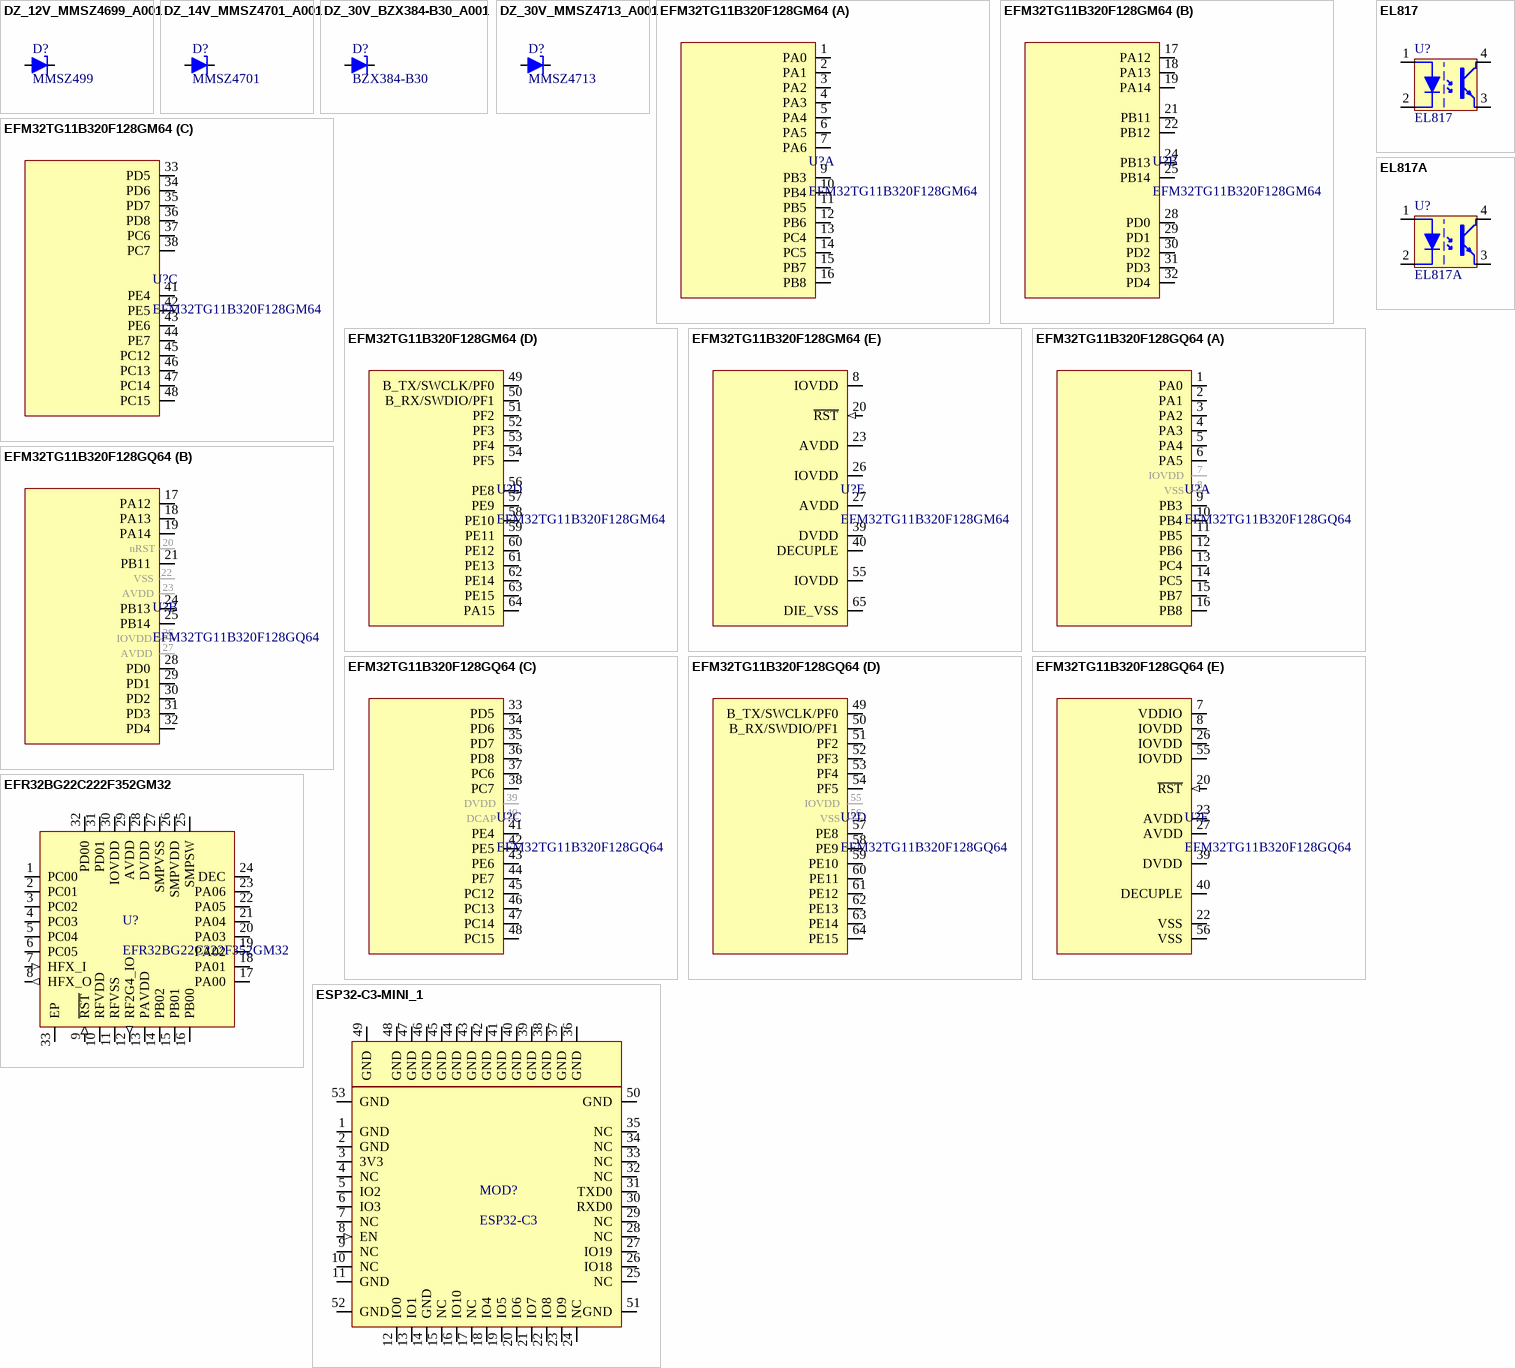
[diagram p4: symbols DZ_12V_MMSZ4699_A001 to ESP32-C3-MINI_1]

## DZ_12V_MMSZ4699_A001
designator D?, comment MMSZ499
12V Zener Iz=50uA SOD-123; ITSN: DZ_12V_MMSZ4699_SOD-123_A001
footprint SOD-123
pins: 1 A, 2 K

## DZ_14V_MMSZ4701_A001
designator D?, comment MMSZ4701
14V Zener Iz=50uA SOD-123; ICLN: DZ_14V_MMSZ4701_SOD-123_A001
footprint SOD-123
pins: 1 A, 2 K

## DZ_30V_BZX384-B30_A001
designator D?, comment BZX384-B30
30V Zener Iz=50uA SOD-323; ITSN: DZ_30V_BZX384_SOD323_A001
footprint SOD-323
pins: 1 A, 2 K

## DZ_30V_MMSZ4713_A001
designator D?, comment MMSZ4713
30V Zener Iz=50uA SOD-123; ITSN: DZ_30V_MMSZ4713_SOD-123_A001
footprint SOD-123
pins: 1 A, 2 K

## EFM32TG11B320F128GM64
designator U?
EFM32TG11 FAMILY: EFM32TG11B3XX; ITSN: IC_EFM32TG11B320_QFN64_A001
footprint QFN64_A001 (GECO SILICON LABS)
part A pins: 1 PA0 (io), 2 PA1 (io), 3 PA2 (io), 4 PA3 (io), 5 PA4 (io), 6 PA5 (io), 7 PA6 (io), 9 PB3 (io), 10 PB4 (io), 11 PB5 (io), 12 PB6 (io), 13 PC4 (io), 14 PC5 (io), 15 PB7 (io), 16 PB8 (io)
part B pins: 17 PA12 (io), 18 PA13 (io), 19 PA14 (io), 21 PB11 (io), 22 PB12 (io), 24 PB13 (io), 25 PB14 (io), 28 PD0 (io), 29 PD1 (io), 30 PD2 (io), 31 PD3 (io), 32 PD4 (io)
part C pins: 33 PD5 (io), 34 PD6 (io), 35 PD7 (io), 36 PD8 (io), 37 PC6 (io), 38 PC7 (io), 41 PE4 (io), 42 PE5 (io), 43 PE6 (io), 44 PE7 (io), 45 PC12 (io), 46 PC13 (io), 47 PC14 (io), 48 PC15 (io)
part D pins: 49 B_TX/SWCLK/PF0 (io), 50 B_RX/SWDIO/PF1 (io), 51 PF2 (io), 52 PF3 (io), 53 PF4 (io), 54 PF5 (io), 56 PE8 (io), 57 PE9 (io), 58 PE10 (io), 59 PE11 (io), 60 PE12 (io), 61 PE13 (io), 62 PE14 (io), 63 PE15 (io), 64 PA15 (io)
part E pins: 8 IOVDD (power), 20 ~{RST} (in), 23 AVDD (power), 26 IOVDD (power), 27 AVDD (power), 39 DVDD (power), 40 DECUPLE, 55 IOVDD (power), 65 DIE_VSS

## EFM32TG11B320F128GQ64
designator U?
EFM32TG11 FAMILY: EFM32TG11B3XX LQFP64; ITSN: IC_EFM32TG11B320_QFP64_A001
footprint LQFP64_small (TSQFP, 64-Leads, Body 10,00x10,00mm, Pitch 0,50mm)
part A pins: 1 PA0 (io), 2 PA1 (io), 3 PA2 (io), 4 PA3 (io), 5 PA4 (io), 6 PA5 (io), 9 PB3 (io), 10 PB4 (io), 11 PB5 (io), 12 PB6 (io), 13 PC4 (io), 14 PC5 (io), 15 PB7 (io), 16 PB8 (io)
part B pins: 17 PA12 (io), 18 PA13 (io), 19 PA14 (io), 21 PB11 (io), 24 PB13 (io), 25 PB14 (io), 28 PD0 (io), 29 PD1 (io), 30 PD2 (io), 31 PD3 (io), 32 PD4 (io)
part C pins: 33 PD5 (io), 34 PD6 (io), 35 PD7 (io), 36 PD8 (io), 37 PC6 (io), 38 PC7 (io), 41 PE4 (io), 42 PE5 (io), 43 PE6 (io), 44 PE7 (io), 45 PC12 (io), 46 PC13 (io), 47 PC14 (io), 48 PC15 (io)
part D pins: 49 B_TX/SWCLK/PF0 (io), 50 B_RX/SWDIO/PF1 (io), 51 PF2 (io), 52 PF3 (io), 53 PF4 (io), 54 PF5 (io), 57 PE8 (io), 58 PE9 (io), 59 PE10 (io), 60 PE11 (io), 61 PE12 (io), 62 PE13 (io), 63 PE14 (io), 64 PE15 (io)
part E pins: 7 VDDIO (power), 8 IOVDD (power), 20 ~{RST} (in), 22 VSS (power), 23 AVDD (power), 26 IOVDD (power), 27 AVDD (power), 39 DVDD (power), 40 DECUPLE, 55 IOVDD (power), 56 VSS (power)
part B text: nRST
part C text: DCAP

## EFR32BG22C222F352GM32
designator U?
EFR32BG22 Wireless Gecko SoC 32Kram 352Kflash; ICLN: IC_EFR32BG22C222F352_QFN32_A01
footprint QFN32_EFM32 (Silicon Labs)
pins: 1 PC00 (io), 2 PC01 (io), 3 PC02 (io), 4 PC03 (io), 5 PC04 (io), 6 PC05 (io), 7 HFX_I (in), 8 HFX_O (out), 9 ~{RST} (in), 10 RFVDD (power), 11 RFVSS (power), 12 RF2G4_IO (out), 13 PAVDD (power), 14 PB02 (io), 15 PB01 (io), 16 PB00 (io), 17 PA00 (io), 18 PA01 (io), 19 PA02 (io), 20 PA03 (io), 21 PA04 (io), 22 PA05 (io), 23 PA06 (io), 24 DEC, 25 SMPSW, 26 SMPVDD, 27 SMPVSS, 28 DVDD (power), 29 AVDD (power), 30 IOVDD (power), 31 PD01 (io), 32 PD00 (io), 33 EP

## EL817
designator U?
EL817 50%; ICLN: OCT_EL817_SMD_A001
footprint Mini-Flat_4_10mm (10mm version)
pins: 1 A, 2 K, 3 E, 4 C

## EL817A
designator U?
EL817 60-160%; ICLN: OCT_EL817A_SMD_A002
footprint Mini-Flat_4_10mm (10mm version)
pins: 1 A, 2 K, 3 E, 4 C

## ESP32-C3-MINI_1
designator MOD?, comment ESP32-C3
ICLN: MOD_ESP32_C3_MINI_1_A001
footprint ESP32_C3_MINI_1
pins: 1 GND (power), 2 GND (power), 3 3V3 (power), 4 NC, 5 IO2 (io), 6 IO3 (io), 7 NC, 8 EN (in), 9 NC, 10 NC, 11 GND (power), 12 IO0 (io), 13 IO1 (io), 14 GND (power), 15 NC, 16 IO10 (io), 17 NC, 18 IO4 (io), 19 IO5 (io), 20 IO6 (io), 21 IO7 (io), 22 IO8 (io), 23 IO9 (io), 24 NC, 25 NC, 26 IO18 (io), 27 IO19 (io), 28 NC, 29 NC, 30 RXD0 (io), 31 TXD0 (io), 32 NC, 33 NC, 34 NC, 35 NC, 36 GND (power), 37 GND (power), 38 GND (power), 39 GND (power), 40 GND (power), 41 GND (power), 42 GND (power), 43 GND (power), 44 GND (power), 45 GND (power), 46 GND (power), 47 GND (power), 48 GND (power), 49 GND (power), 50 GND (power), 51 GND (power), 52 GND (power), 53 GND (power)

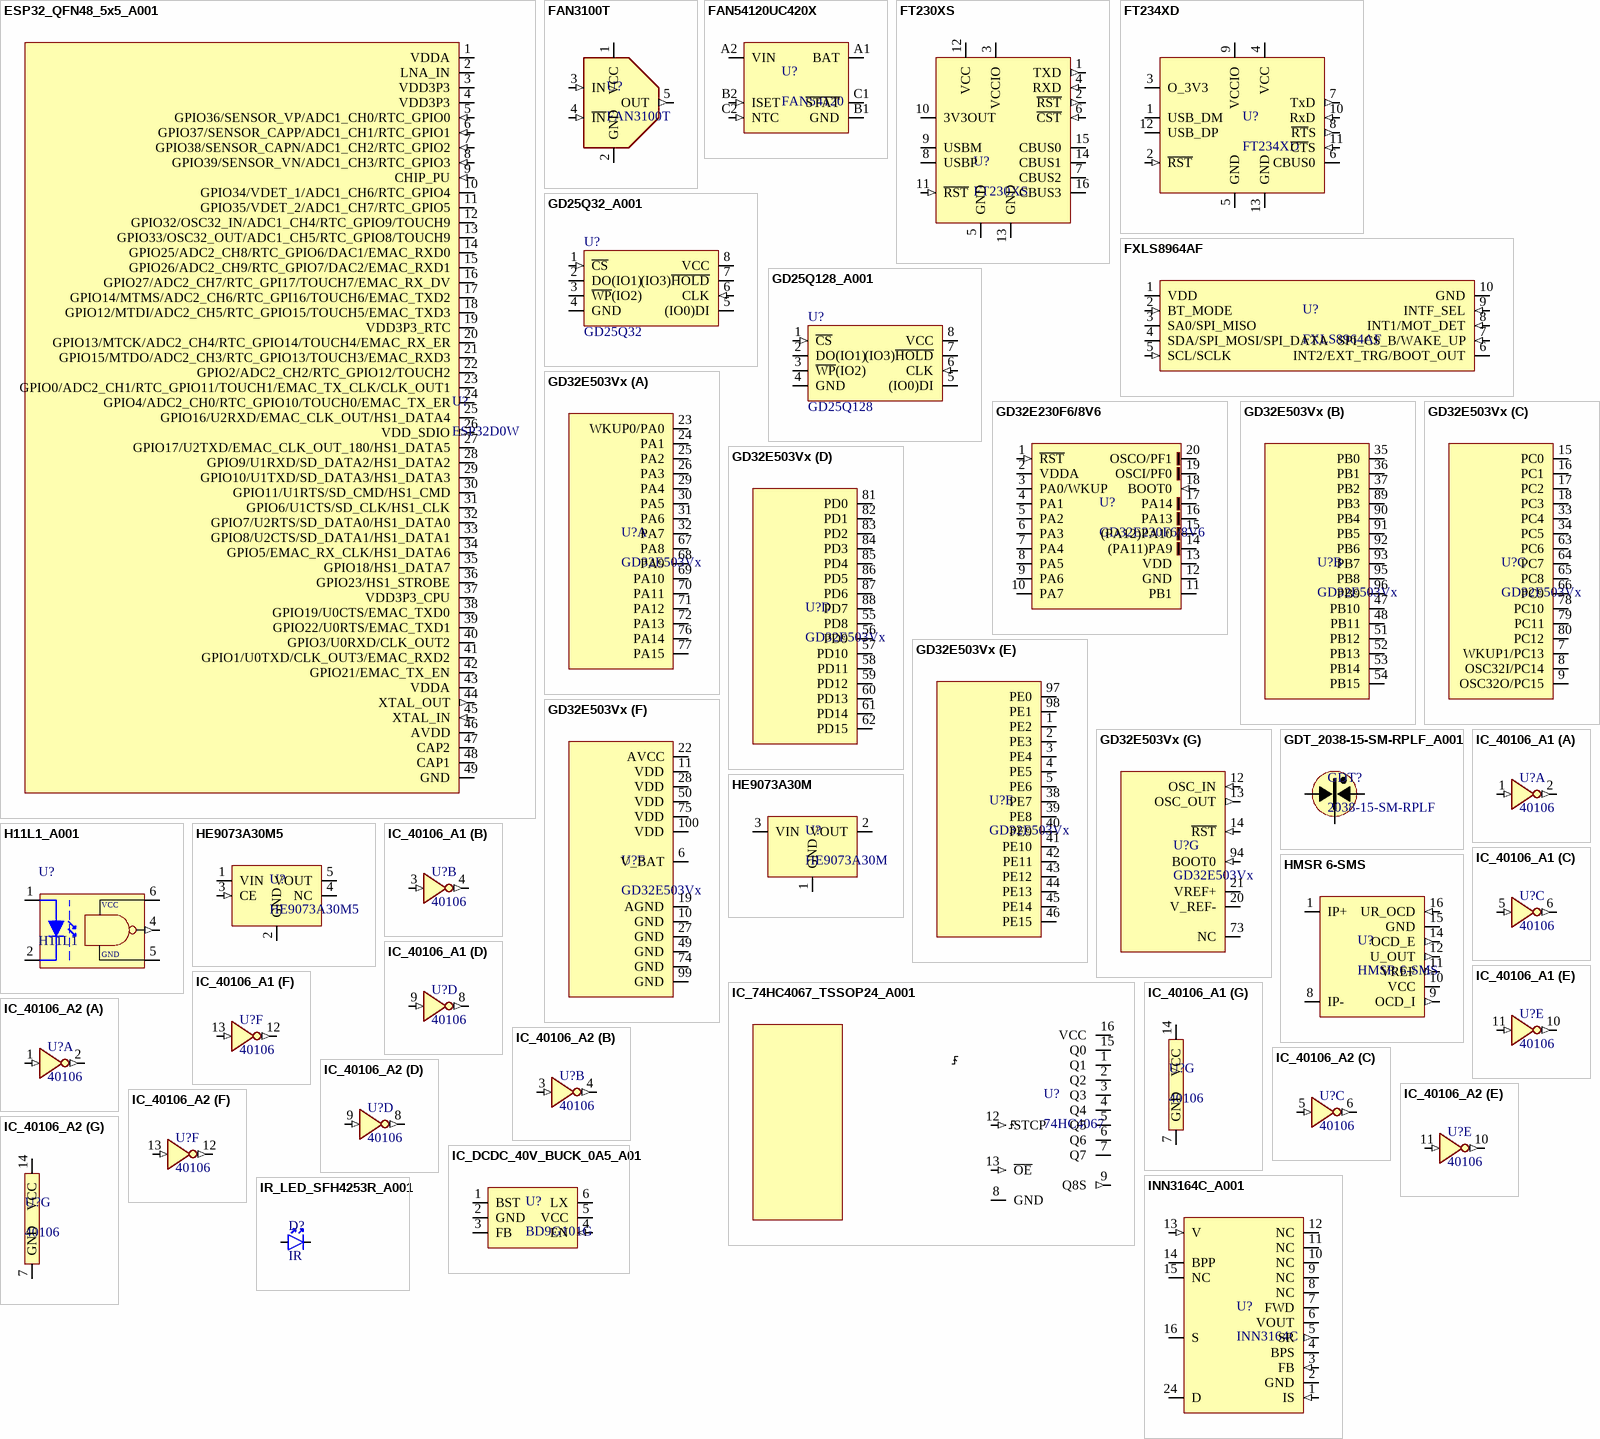
[diagram p5: symbols ESP32_QFN48_5x5_A001 to IR_LED_SFH4253R_A001]

## ESP32_QFN48_5x5_A001
designator U?, comment ESP32D0W
ESP32 QFN48 5x5; ITSN: IC_ESP32D0W_QFN48_A001
footprint QFN48_5_5_v1 (QFN48 5x5)
pins: 1 VDDA (power), 2 LNA_IN, 3 VDD3P3 (power), 4 VDD3P3 (power), 5 GPIO36/SENSOR_VP/ADC1_CH0/RTC_GPIO0 (in), 6 GPIO37/SENSOR_CAPP/ADC1_CH1/RTC_GPIO1 (in), 7 GPIO38/SENSOR_CAPN/ADC1_CH2/RTC_GPIO2 (in), 8 GPIO39/SENSOR_VN/ADC1_CH3/RTC_GPIO3 (in), 9 CHIP_PU (in), 10 GPIO34/VDET_1/ADC1_CH6/RTC_GPIO4 (io), 11 GPIO35/VDET_2/ADC1_CH7/RTC_GPIO5 (io), 12 GPIO32/OSC32_IN/ADC1_CH4/RTC_GPIO9/TOUCH9 (io), 13 GPIO33/OSC32_OUT/ADC1_CH5/RTC_GPIO8/TOUCH9 (io), 14 GPIO25/ADC2_CH8/RTC_GPIO6/DAC1/EMAC_RXD0 (io), 15 GPIO26/ADC2_CH9/RTC_GPIO7/DAC2/EMAC_RXD1 (io), 16 GPIO27/ADC2_CH7/RTC_GPI17/TOUCH7/EMAC_RX_DV (io), 17 GPIO14/MTMS/ADC2_CH6/RTC_GPI16/TOUCH6/EMAC_TXD2 (io), 18 GPIO12/MTDI/ADC2_CH5/RTC_GPIO15/TOUCH5/EMAC_TXD3 (io), 19 VDD3P3_RTC (power), 20 GPIO13/MTCK/ADC2_CH4/RTC_GPIO14/TOUCH4/EMAC_RX_ER (io), 21 GPIO15/MTDO/ADC2_CH3/RTC_GPIO13/TOUCH3/EMAC_RXD3 (io), 22 GPIO2/ADC2_CH2/RTC_GPIO12/TOUCH2 (io), 23 GPIO0/ADC2_CH1/RTC_GPIO11/TOUCH1/EMAC_TX_CLK/CLK_OUT1 (io), 24 GPIO4/ADC2_CH0/RTC_GPIO10/TOUCH0/EMAC_TX_ER (io), 25 GPIO16/U2RXD/EMAC_CLK_OUT/HS1_DATA4 (io), 26 VDD_SDIO (out) "OUTPUT 1V8 OR VDD3P3_RTC", 27 GPIO17/U2TXD/EMAC_CLK_OUT_180/HS1_DATA5 (io), 28 GPIO9/U1RXD/SD_DATA2/HS1_DATA2 (io), 29 GPIO10/U1TXD/SD_DATA3/HS1_DATA3 (io), 30 GPIO11/U1RTS/SD_CMD/HS1_CMD (io), 31 GPIO6/U1CTS/SD_CLK/HS1_CLK (io), 32 GPIO7/U2RTS/SD_DATA0/HS1_DATA0 (io), 33 GPIO8/U2CTS/SD_DATA1/HS1_DATA1 (io), 34 GPIO5/EMAC_RX_CLK/HS1_DATA6 (io), 35 GPIO18/HS1_DATA7 (io), 36 GPIO23/HS1_STROBE (io), 37 VDD3P3_CPU (power), 38 GPIO19/U0CTS/EMAC_TXD0 (io), 39 GPIO22/U0RTS/EMAC_TXD1 (io), 40 GPIO3/U0RXD/CLK_OUT2 (io), 41 GPIO1/U0TXD/CLK_OUT3/EMAC_RXD2 (io), 42 GPIO21/EMAC_TX_EN (io), 43 VDDA (power), 44 XTAL_OUT (out), 45 XTAL_IN (in), 46 AVDD (power), 47 CAP2, 48 CAP1, 49 GND

## FAN3100T
designator U?
2A low side gate driver, dual input
footprint SOT-23-5
pins: 1 VCC (power), 2 GND (power), 3 IN (in), 4 ~{IN} (in), 5 OUT (out)

## FAN54120UC420X
designator U?, comment FAN54120
500 mA USB Compatible Single Cell Li-Lon Linear Charger; ICLN: IC_FAN54120UC420X_BGA_A01
footprint DSBGA-6
pins: A1 BAT (power), A2 VIN (power), B1 GND (power), B2 ISET (in), C1 ~{STAT} (oc), C2 NTC (in)

## FT230XS
designator U?
ITSN: IC_FT230XS_SSOP16_A001
footprint SSOP-16_v2 (smoller)
pins: 1 TXD (out), 2 ~{RST} (out), 3 VCCIO (power), 4 RXD (in), 5 GND (power), 6 ~{CST} (in), 7 CBUS2 (io), 8 USBP, 9 USBM, 10 3V3OUT (power), 11 ~{RST} (in), 12 VCC (power), 13 GND (power), 14 CBUS1 (io), 15 CBUS0 (io), 16 CBUS3 (io)

## FT234XD
designator U?
FTDI FT234XD USART bridge; ITSN: IC_FT234XD_DFN-12_A001
footprint DFN-12 (FTDI DFN-12)
pins: 1 USB_DM, 2 ~{RST} (in), 3 O_3V3 (power), 4 VCC (power), 5 GND (power), 6 CBUS0 (io), 7 TxD (out), 8 ~{RT}S (out), 9 VCCIO (power), 10 RxD (in), 11 ~{CT}S (in), 12 USB_DP, 13 GND (power)

## FXLS8964AF
designator U?
NXP acc low power; ITSN: nn
footprint DFN-10_ACC (PQFN, 10-Leads, Body 2,00x2,00mm, Pitch 0,40mm, Thermal Pad 0,50x0,50mm, IPC Medium Density)
pins: 1 VDD (power), 2 BT_MODE (in), 3 SA0/SPI_MISO (io), 4 SDA/SPI_MOSI/SPI_DATA (io), 5 SCL/SCLK (in), 6 INT2/EXT_TRG/BOOT_OUT (io), 7 SPI_CS_B/WAKE_UP (in), 8 INT1/MOT_DET (in), 9 INTF_SEL (in), 10 GND (power)

## GD25Q32_A001
designator U?, comment GD25Q32
SPI flash; ITSN: IC_GD25Q32_SO8_A001
footprint SOIC-8_208 _150 (150 - 208mm soic 8 package FLASH)
pins: 1 ~{CS} (in), 2 DO(IO1) (io), 3 ~{WP}(IO2) (io), 4 GND (power), 5 (IO0)DI (io), 6 CLK (in), 7 (IO3)~{HOLD} (io), 8 VCC (power)

## GD25Q128_A001
designator U?, comment GD25Q128
SPI/QSPI flash 128Mb; ICLN: IC_GD25Q128_SO8_A001
footprint SOIC-8_208 _150 (150 - 208mm soic 8 package FLASH)
pins: 1 ~{CS} (in), 2 DO(IO1) (io), 3 ~{WP}(IO2) (io), 4 GND (power), 5 (IO0)DI (io), 6 CLK (in), 7 (IO3)~{HOLD} (io), 8 VCC (power)

## GD32E230F6/8V6
designator U?
M23 32-64kB flash 6-8 kB Ram 20 pins LGA20; ICLN: IC_GD32E230F6/8V6_LGA20_A001
footprint LGA-20-GD (GigaDevice LGA20)
pins: 1 ~{RST} (in), 2 VDDA (power), 3 PA0/WKUP (io), 4 PA1 (io), 5 PA2 (io), 6 PA3 (io), 7 PA4 (io), 8 PA5 (io), 9 PA6 (io), 10 PA7 (io), 11 PB1 (io), 12 GND (power), 13 VDD (power), 14 (PA11)PA9 (io), 15 (PA12)PA10 (io), 16 PA13 (io), 17 PA14 (io), 18 BOOT0 (in), 19 OSCI/PF0 (io), 20 OSCO/PF1 (io)

## GD32E503Vx
designator U?
footprint LQFP100_A001 (TSQFP, 100-Leads, Body 14,00x14,00mm, Pitch 0,50mm, IPC Low Density)
part A pins: 23 WKUP0/PA0 (io), 24 PA1 (io), 25 PA2 (io), 26 PA3 (io), 29 PA4 (io), 30 PA5 (io), 31 PA6 (io), 32 PA7 (io), 67 PA8 (io), 68 PA9 (io), 69 PA10 (io), 70 PA11 (io), 71 PA12 (io), 72 PA13 (io), 76 PA14 (io), 77 PA15 (io)
part B pins: 35 PB0 (io), 36 PB1 (io), 37 PB2 (io), 47 PB10 (io), 48 PB11 (io), 51 PB12 (io), 52 PB13 (io), 53 PB14 (io), 54 PB15 (io), 89 PB3 (io), 90 PB4 (io), 91 PB5 (io), 92 PB6 (io), 93 PB7 (io), 95 PB8 (io), 96 PB9 (io)
part C pins: 7 WKUP1/PC13 (io), 8 OSC32I/PC14 (io), 9 OSC32O/PC15 (io), 15 PC0 (io), 16 PC1 (io), 17 PC2 (io), 18 PC3 (io), 33 PC4 (io), 34 PC5 (io), 63 PC6 (io), 64 PC7 (io), 65 PC8 (io), 66 PC9 (io), 78 PC10 (io), 79 PC11 (io), 80 PC12 (io)
part D pins: 55 PD8 (io), 56 PD9 (io), 57 PD10 (io), 58 PD11 (io), 59 PD12 (io), 60 PD13 (io), 61 PD14 (io), 62 PD15 (io), 81 PD0 (io), 82 PD1 (io), 83 PD2 (io), 84 PD3 (io), 85 PD4 (io), 86 PD5 (io), 87 PD6 (io), 88 PD7 (io)
part E pins: 1 PE2 (io), 2 PE3 (io), 3 PE4 (io), 4 PE5 (io), 5 PE6 (io), 38 PE7 (io), 39 PE8 (io), 40 PE9 (io), 41 PE10 (io), 42 PE11 (io), 43 PE12 (io), 44 PE13 (io), 45 PE14 (io), 46 PE15 (io), 97 PE0 (io), 98 PE1 (io)
part F pins: 6 V_BAT (power), 10 GND (power), 11 VDD (power), 19 AGND (power), 22 AVCC (power), 27 GND (power), 28 VDD (power), 49 GND (power), 50 VDD (power), 74 GND (power), 75 VDD (power), 99 GND (power), 100 VDD (power)
part G pins: 12 OSC_IN (in), 13 OSC_OUT (out), 14 ~{RST} (in), 20 V_REF- (power), 21 VREF+ (power), 73 NC, 94 BOOT0 (in)

## GDT_2038-15-SM-RPLF_A001
designator GDT?, comment 2038-15-SM-RPLF
3-Electrode Surface Mount Gas Discharge Tube; ICLN: GDT_2038-15-SM_A001
footprint 2038-15-SM-RPLF (GDT  BOURNS)
pins: 1 E1, 2 EC, 3 E2

## H11L1_A001
designator U?, comment H11L1
Digital output transoptor - multi package; ICLN: OCD_MULTI_SMD_A002
footprint SDIP6_SPECIAL_1 (multi transoptor footprint)
pins: 1 A, 2 K, 4 GND (out), 5 OUT, 6 VCC

## HE9073A30M
designator U?
0u3A IQ LDO 3V0; ICLN: IC_HE9073A30M_SOT23_A001
footprint SOT-23
pins: 1 GND (power), 2 VOUT (power), 3 VIN (power)

## HE9073A30M5
designator U?
0u3A IQ LDO 3V0; ICLN: IC_HE9073A30M5_SOT23-5_A001
footprint SOT-23-5
pins: 1 VIN (power), 2 GND (power), 3 CE (in), 4 NC (power), 5 VOUT (power)

## HMSR 6-SMS
designator U?
hall CS 6A; ICLN: IC_HMSR 6-SMS_SMD_A001
footprint HMSR-XX-SMS (LEM CS)
pins: 1 IP+, 8 IP-, 9 OCD_I (out), 10 VCC (power), 11 VREF (out), 12 U_OUT (out), 14 OCD_E (out), 15 GND (power), 16 UR_OCD (in)

## IC_74HC4067_TSSOP24_A001
designator U?, comment 74HC4067
1:16 analog multiplekser; ICLN: IC_74HC4067_TSSOP24_A001
pins: 1 Q1 (oc), 2 Q2 (oc), 3 Q3 (oc), 4 Q4 (oc), 5 Q5 (oc), 6 Q6 (oc), 7 Q7 (oc), 8 GND (power), 9 Q8S (out), 12 STCP (in), 13 ~{OE} (in), 15 Q0 (oc), 16 VCC (power)

## IC_40106_A1
designator U?, comment 40106
6 x inverter SO14; ICLN: IC_40106_SO-14_A001
footprint SO-14
part A pins: 1 A1 (in), 2 ~{Y1} (out)
part B pins: 3 A2 (in), 4 ~{Y2} (out)
part C pins: 5 A3 (in), 6 ~{Y3} (out)
part D pins: 8 ~{Y4} (out), 9 A4 (in)
part E pins: 10 ~{Y5} (out), 11 A5 (in)
part F pins: 12 ~{Y6} (out), 13 A6 (in)
part G pins: 7 GND (power), 14 VCC (power)

## IC_40106_A2
designator U?, comment 40106
6 x inverter SO14; ICLN: IC_40106_SO-14_A001
footprint TSSOP-14
part A pins: 1 A1 (in), 2 ~{Y1} (out)
part B pins: 3 A2 (in), 4 ~{Y2} (out)
part C pins: 5 A3 (in), 6 ~{Y3} (out)
part D pins: 8 ~{Y4} (out), 9 A4 (in)
part E pins: 10 ~{Y5} (out), 11 A5 (in)
part F pins: 12 ~{Y6} (out), 13 A6 (in)
part G pins: 7 GND (power), 14 VCC (power)

## IC_DCDC_40V_BUCK_0A5_A01
designator U?, comment BD9G101G
40V buck 0.5A converter.; ICLN: IC_DCDC_40V_BUCK_0A5_SOT23-6_A001
footprint SOT23-6 (Zetex)
pins: 1 BST, 2 GND (power), 3 FB, 4 EN (in), 5 VCC (power), 6 LX

## INN3164C_A001
designator U?, comment INN3164C
ICLN: IC_INN3164C_SMD_A001
footprint InSOP-24D (Power Integration)
pins: 1 IS (in), 2 GND (power), 3 FB (in), 4 BPS, 5 SR (out), 6 VOUT, 7 FWD, 8 NC, 9 NC, 10 NC, 11 NC, 12 NC, 13 V (in), 14 BPP, 15 NC, 16 S, 24 D

## IR_LED_SFH4253R_A001
designator D?, comment IR
LED IR PLCC reverse mounting; ITSN: nn
footprint PLCC_RG_v2 (reverse mounting PLCC IR)
pins: 1 A, 2 K

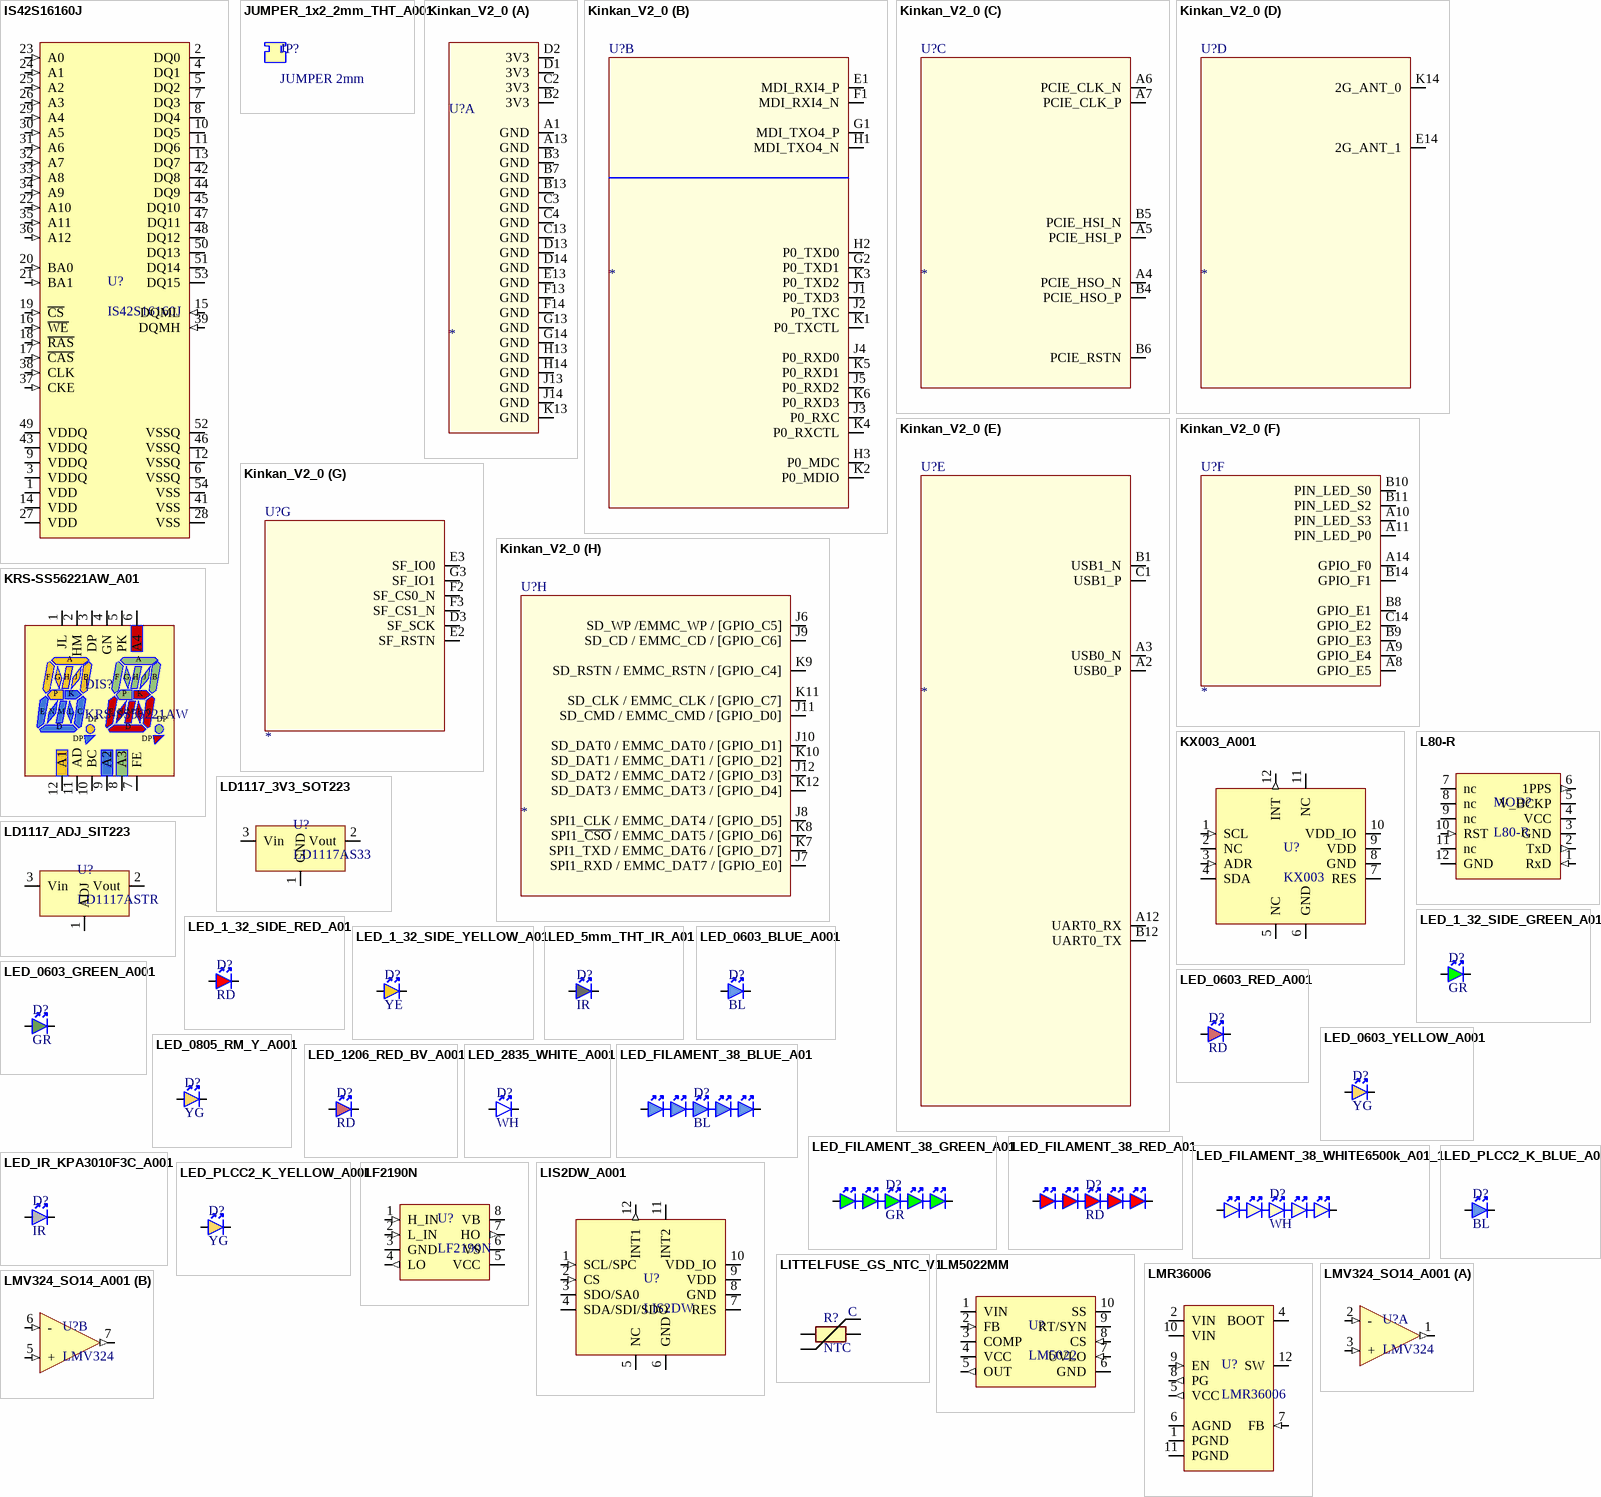
[diagram p6: symbols IS42S16160J to LMV324_SO14_A001]

## IS42S16160J
designator U?
SDRAM TSOP 54 standard
footprint TSOP-54 (TSOP, 54-Leads, Body 22,22x10,16mm, Pitch 0,80mm, IPC Medium Density)
pins: 1 VDD (power), 2 DQ0 (io), 3 VDDQ (power), 4 DQ1 (io), 5 DQ2 (io), 6 VSSQ (power), 7 DQ3 (io), 8 DQ4 (io), 9 VDDQ (power), 10 DQ5 (io), 11 DQ6 (io), 12 VSSQ (power), 13 DQ7 (io), 14 VDD (power), 15 DQML (in), 16 ~{WE} (in), 17 ~{CAS} (in), 18 ~{RAS} (in), 19 ~{CS} (in), 20 BA0 (in), 21 BA1 (in), 22 A10 (in), 23 A0 (in), 24 A1 (in), 25 A2 (in), 26 A3 (in), 27 VDD (power), 28 VSS (power), 29 A4 (in), 30 A5 (in), 31 A6 (in), 32 A7 (in), 33 A8 (in), 34 A9 (in), 35 A11 (in), 36 A12 (in), 37 CKE (in), 38 CLK (in), 39 DQMH (in), 41 VSS (power), 42 DQ8 (io), 43 VDDQ (power), 44 DQ9 (io), 45 DQ10 (io), 46 VSSQ (power), 47 DQ11 (io), 48 DQ12 (io), 49 VDDQ (power), 50 DQ13 (io), 51 DQ14 (io), 52 VSSQ (power), 53 DQ15 (io), 54 VSS (power)

## JUMPER_1x2_2mm_THT_A001
designator JP?, comment JUMPER 2mm
footprint JUMPER_2_A001

## Kinkan_V2_0
designator U?
ICLN: MOD_KINKAN_V2_A001
footprint Kinkan_V2.0 (Footprint not found)
part A pins: A1 GND, A13 GND, B2 3V3, B3 GND, B7 GND, B13 GND, C2 3V3, C3 GND, C4 GND, C13 GND, D1 3V3, D2 3V3, D13 GND, D14 GND, E13 GND, F13 GND, F14 GND, G13 GND, G14 GND, H13 GND, H14 GND, J13 GND, J14 GND, K13 GND
part B pins: E1 MDI_RXI4_P, F1 MDI_RXI4_N, G1 MDI_TXO4_P, G2 P0_TXD1, H1 MDI_TXO4_N, H2 P0_TXD0, H3 P0_MDC, J1 P0_TXD3, J2 P0_TXC, J3 P0_RXC, J4 P0_RXD0, J5 P0_RXD2, K1 P0_TXCTL, K2 P0_MDIO, K3 P0_TXD2, K4 P0_RXCTL, K5 P0_RXD1, K6 P0_RXD3
part C pins: A4 PCIE_HSO_N, A5 PCIE_HSI_P, A6 PCIE_CLK_N, A7 PCIE_CLK_P, B4 PCIE_HSO_P, B5 PCIE_HSI_N, B6 PCIE_RSTN
part D pins: E14 2G_ANT_1, K14 2G_ANT_0
part E pins: A2 USB0_P, A3 USB0_N, A12 UART0_RX, B1 USB1_N, B12 UART0_TX, C1 USB1_P
part F pins: A8 GPIO_E5, A9 GPIO_E4, A10 PIN_LED_S3, A11 PIN_LED_P0, A14 GPIO_F0, B8 GPIO_E1, B9 GPIO_E3, B10 PIN_LED_S0, B11 PIN_LED_S2, B14 GPIO_F1, C14 GPIO_E2
part G pins: D3 SF_SCK, E2 SF_RSTN, E3 SF_IO0, F2 SF_CS0_N, F3 SF_CS1_N, G3 SF_IO1
part H pins: J6 SD_WP /EMMC_WP / [GPIO_C5], J7 SPI1_RXD / EMMC_DAT7 / [GPIO_E0], J8 SPI1_CLK / EMMC_DAT4 / [GPIO_D5], J9 SD_CD / EMMC_CD / [GPIO_C6], J10 SD_DAT0 / EMMC_DAT0 / [GPIO_D1], J11 SD_CMD / EMMC_CMD / [GPIO_D0], J12 SD_DAT2 / EMMC_DAT2 / [GPIO_D3], K7 SPI1_TXD / EMMC_DAT6 / [GPIO_D7], K8 SPI1_~{CSO} / EMMC_DAT5 / [GPIO_D6], K9 SD_RSTN / EMMC_RSTN / [GPIO_C4], K10 SD_DAT1 / EMMC_DAT1 / [GPIO_D2], K11 SD_CLK / EMMC_CLK / [GPIO_C7], K12 SD_DAT3 / EMMC_DAT3 / [GPIO_D4]

## KRS-SS56221AW_A01
designator DIS?, comment KRS-SS56221AW
14+2 segment LED display SMD; ICLN: DISP_LED_14+2_SEG_CUST__SMD_A001
footprint KRS-SS56221AW (led display 16 segment)
pins: 1 JL, 2 HM, 3 DP, 4 GN, 5 PK, 6 A4, 7 FE, 8 A3, 9 A2, 10 BC, 11 AD, 12 A1
text: A; F; G; H; J; B; P; K; E; N; M; L; C; D

## KX003_A001
designator U?, comment KX003
KX003-1077; ITSN: IC_KX003_LGA12_A001
footprint LGA-12_ACC (LGA, 12-Leads, Body 2,00x2,00mmx0,70mm, Pitch 0,50mm)
pins: 1 SCL (in), 2 NC, 3 ADR (in), 4 SDA (io), 5 NC, 6 GND (power), 7 RES, 8 GND (power), 9 VDD (power), 10 VDD_IO (power), 11 NC, 12 INT (out)

## L80-R
designator MOD?
ITSN: MOD_GPS_L80_A001
footprint L80-R
pins: 1 RxD (in), 2 TxD (out), 3 GND (power), 4 VCC (power), 5 V_BCKP (power), 6 1PPS (out), 7 nc, 8 nc, 9 nc, 10 RST (in), 11 nc, 12 GND (power)

## LD1117_3V3_SOT223
designator U?, comment LD1117AS33
3V3 LD1117 SOT223; ICLN: IC_LD1117_3V3_SOT223_A001
footprint SOT-223
pins: 1 GND, 2 Vout, 3 Vin

## LD1117_ADJ_SIT223
designator U?, comment LD1117ASTR
ADJ LD1117 SOT223; ITSN: IC_LD1117_ADJ_SOT223_A001
footprint SOT-223
pins: 1 ADJ, 2 Vout, 3 Vin

## LED_1_32_SIDE_GREEN_A01
designator D?, comment GR
Side View LED 1x3.2mm Green; ICLN: LED_GR_SIDE_1_32_SMD_A01
footprint LED_1_32_SIDE_GR (1x3.2mm side view green LED)
pins: 1 A, 2 K

## LED_1_32_SIDE_RED_A01
designator D?, comment RD
Side View LED 1x3.2mm Red; ICLN: LED_RD_SIDE_1_32_SMD_A01
footprint LED_1_32_SIDE_RD (1x3.2mm side view red LED)
pins: 1 A, 2 K

## LED_1_32_SIDE_YELLOW_A01
designator D?, comment YE
Side View LED 1x3.2mm Yellow; ICLN: LED_YE_SIDE_1_32_SMD_A01
footprint LED_1_32_SIDE_YE (1x3.2mm side view yelow LED)
pins: 1 A, 2 K

## LED_5mm_THT_IR_A01
designator D?, comment IR
High power IR rtransmitter; ICLN: IRREC_TSSP4P38_THT_A001
footprint 5MM_IR_A001
pins: 1 A, 2 K

## LED_0603_BLUE_A001
designator D?, comment BL
LED 0603 Blue , regular; ITSN: LED_0603_BLUE_A001
footprint 0603_LED_BL (0603 LED Blue)
pins: 1 A, 2 K

## LED_0603_GREEN_A001
designator D?, comment GR
LED 0603 Green , regular; ITSN: LED_0603_GREEN_A001
footprint 0603_LED_GR (0603 LED Green)
pins: 1 A, 2 K

## LED_0603_RED_A001
designator D?, comment RD
LED 0603 Red , regular; ITSN: LED_0603_RED_A001
footprint 0603_LED_RD (0603 LED Red)
pins: 1 A, 2 K

## LED_0603_YELLOW_A001
designator D?, comment YG
LED 0603 Yellow , regular; ITSN: LED_0603_YELLOW_A001
footprint 0603_LED_YE (0603 LED Yellow)
pins: 1 A, 2 K

## LED_0805_RM_Y_A001
designator D?, comment YG
LED 0805 Yellow , reverse mounting; ITSN: LED_0603_YELLOW_A001
footprint 0805_LED_RM_YE (0805 LED Yellow rewerse mount)
pins: 1 A, 2 K

## LED_1206_RED_BV_A001
designator D?, comment RD
LED 0603 Red , regular; ITSN: nn
footprint 1206_LED_BV_RD (1206 LED Red bottom viev)
pins: 1 A, 2 K

## LED_2835_WHITE_A001
designator D?, comment WH
LED 2835 white , bright; ITSN: nn
footprint JE2835xx (cree led)
pins: 1 A, 2 K

## LED_FILAMENT_38_BLUE_A01
designator D?, comment BL
LED filament blue; ICLN: LED_FILAMENT_38_BLUE_A001
footprint LED_filament_38mm_BLUE_A001
pins: 1 A, 2 K

## LED_FILAMENT_38_GREEN_A01
designator D?, comment GR
LED filament green; ICLN: LED_FILAMENT_38_GREEN_A001
footprint LED_filament_38mm_GREEN_A001
pins: 1 A, 2 K

## LED_FILAMENT_38_RED_A01
designator D?, comment RD
LED filament red; ICLN: LED_FILAMENT_38_RED_A001
footprint LED_filament_38mm_RED_A001
pins: 1 A, 2 K

## LED_FILAMENT_38_WHITE6500k_A01_1
designator D?, comment WH
LED filament white 6500k; ICLN: LED_FILAMENT_38_WHITE6500k_A001
footprint LED_filament_38mm_WHITE_A001
pins: 1 A, 2 K

## LED_IR_KPA3010F3C_A001
designator D?, comment IR
LED IR 3x2x1mm Side right KPA3010F3C; ICLN: LED_IR_KPA3010F3C_A001
footprint IR_030201_SIDE_1 (IR emiter side right)
pins: 1 K, 2 A

## LED_PLCC2_K_BLUE_A001
designator D?, comment BL
LED PLCC2 Blue , angle; ICLN: LED_PLCC2_K_BLUE_A001
footprint PLCC2_K_LED_BL (PLCC2 angle Blue)
pins: 1 K, 2 A

## LED_PLCC2_K_YELLOW_A001
designator D?, comment YG
LED PLCC2 Yellow , angle; ICLN: LED_PLCC2_K_YELOW_A001
footprint PLCC2_K_LED_YE (PLCC2 angle yelow)
pins: 1 K, 2 A

## LF2190N
designator U?
High-Side / Low-Side Gate Driver 4.5A/4.5A 600V; ICLN: IC_LF2190N_SO8_A001
footprint SO-8
pins: 1 H_IN (in), 2 L_IN (in), 3 GND (power), 4 LO (out), 5 VCC (power), 6 VS, 7 HO (out), 8 VB (power)

## LIS2DW_A001
designator U?, comment LIS2DW
ITSN: IC_LIS2HH_LGA12_A001
footprint LGA-12 (LGA, 12-Leads, Body 2,00x2,00mmx0,70mm, Pitch 0,50mm)
pins: 1 SCL/SPC (in), 2 CS (in), 3 SDO/SA0 (io), 4 SDA/SDI/SDO (io), 5 NC, 6 GND (power), 7 RES, 8 GND (power), 9 VDD (power), 10 VDD_IO (power), 11 INT2 (io), 12 INT1 (out)

## LITTELFUSE_GS_NTC_V1
designator R?, comment NTC
ITSN: nn
footprint LittelFuse_GS_V_4mm_v 1 (NTC glass drop)
footprint LittelFuse_GS_V_4mm_v2 (NTC glass drop)
pins: 1, 2
text: C

## LM5022MM
designator U?, comment LM5022
boost converter
footprint SSOP-10 (st viper 11 series)
pins: 1 VIN (power), 2 FB (in), 3 COMP, 4 VCC (power), 5 OUT (out), 6 GND (power), 7 UVLO (in), 8 CS (in), 9 RT/SYN, 10 SS

## LMR36006
designator U?
60V 0A6 synchronus step-down converter; ITSN: LMR36006_A001
footprint VQFN-HR-12 (TI VQFN-HR-12)
pins: 1 PGND (power), 2 VIN (power), 4 BOOT, 5 VCC (out), 6 AGND (power), 7 FB (in), 8 PG (out), 9 EN (in), 10 VIN (power), 11 PGND (power), 12 SW

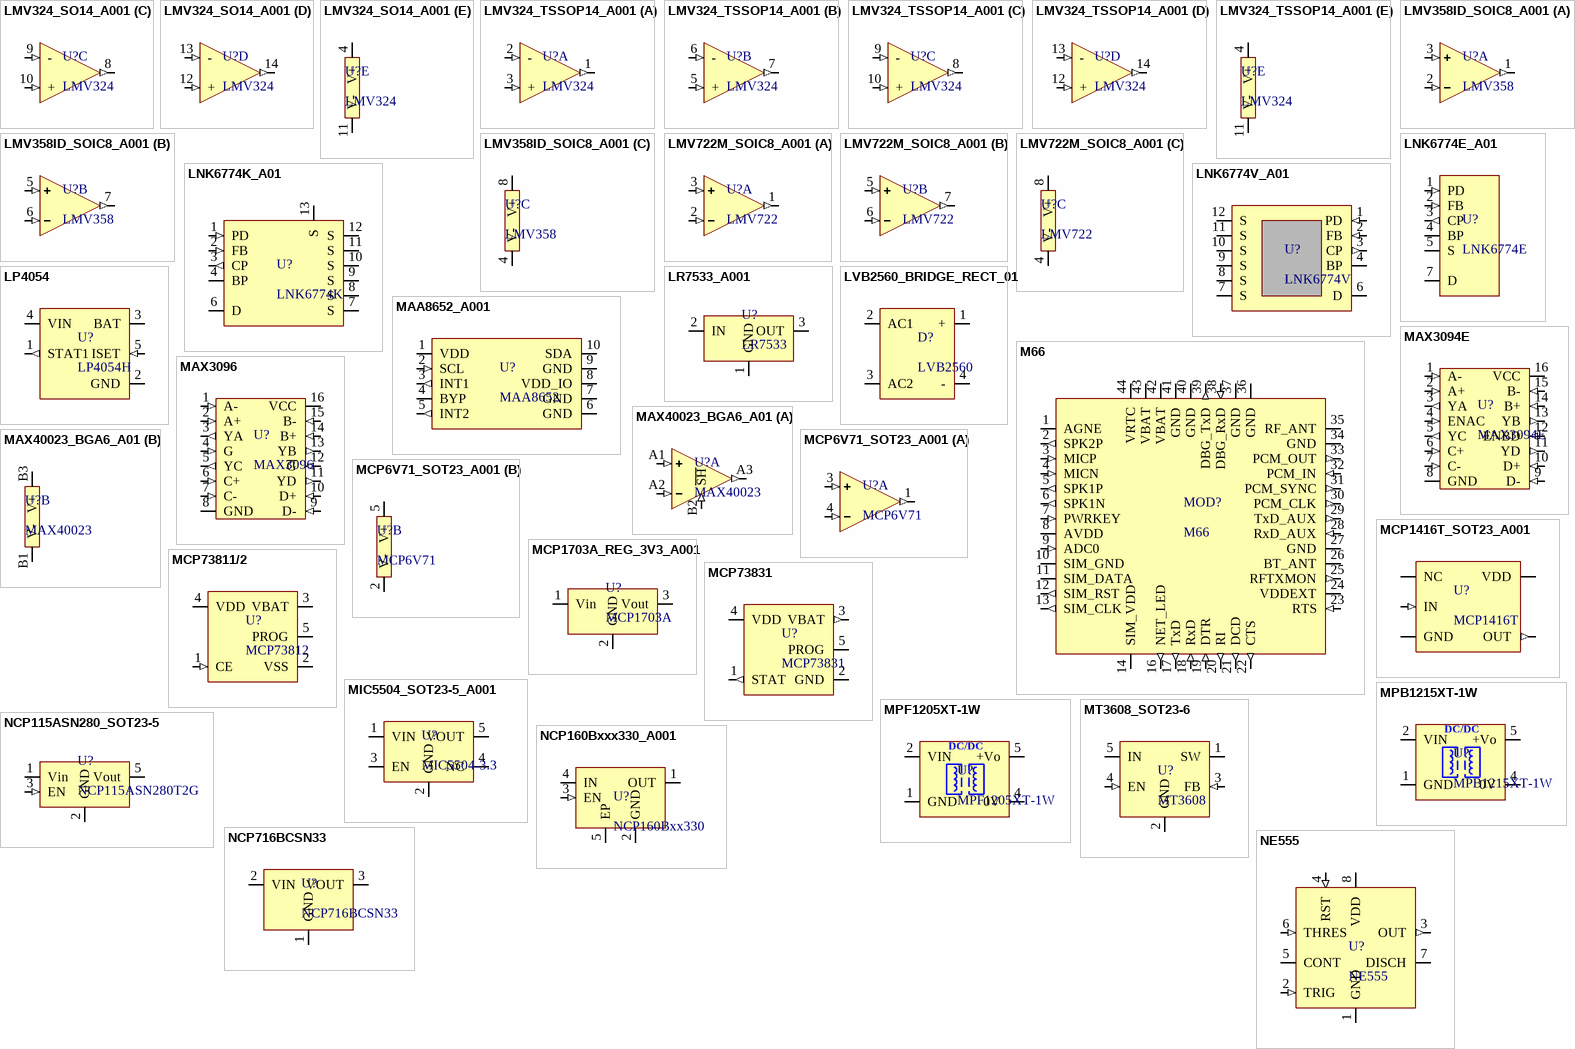
[diagram p7: symbols LMV324_SO14_A001 to NE555]